# Altium schematic symbol library Atmel_By_element14_Batch_1-00.SCHLIB: 346 symbols (part 3 of 5)
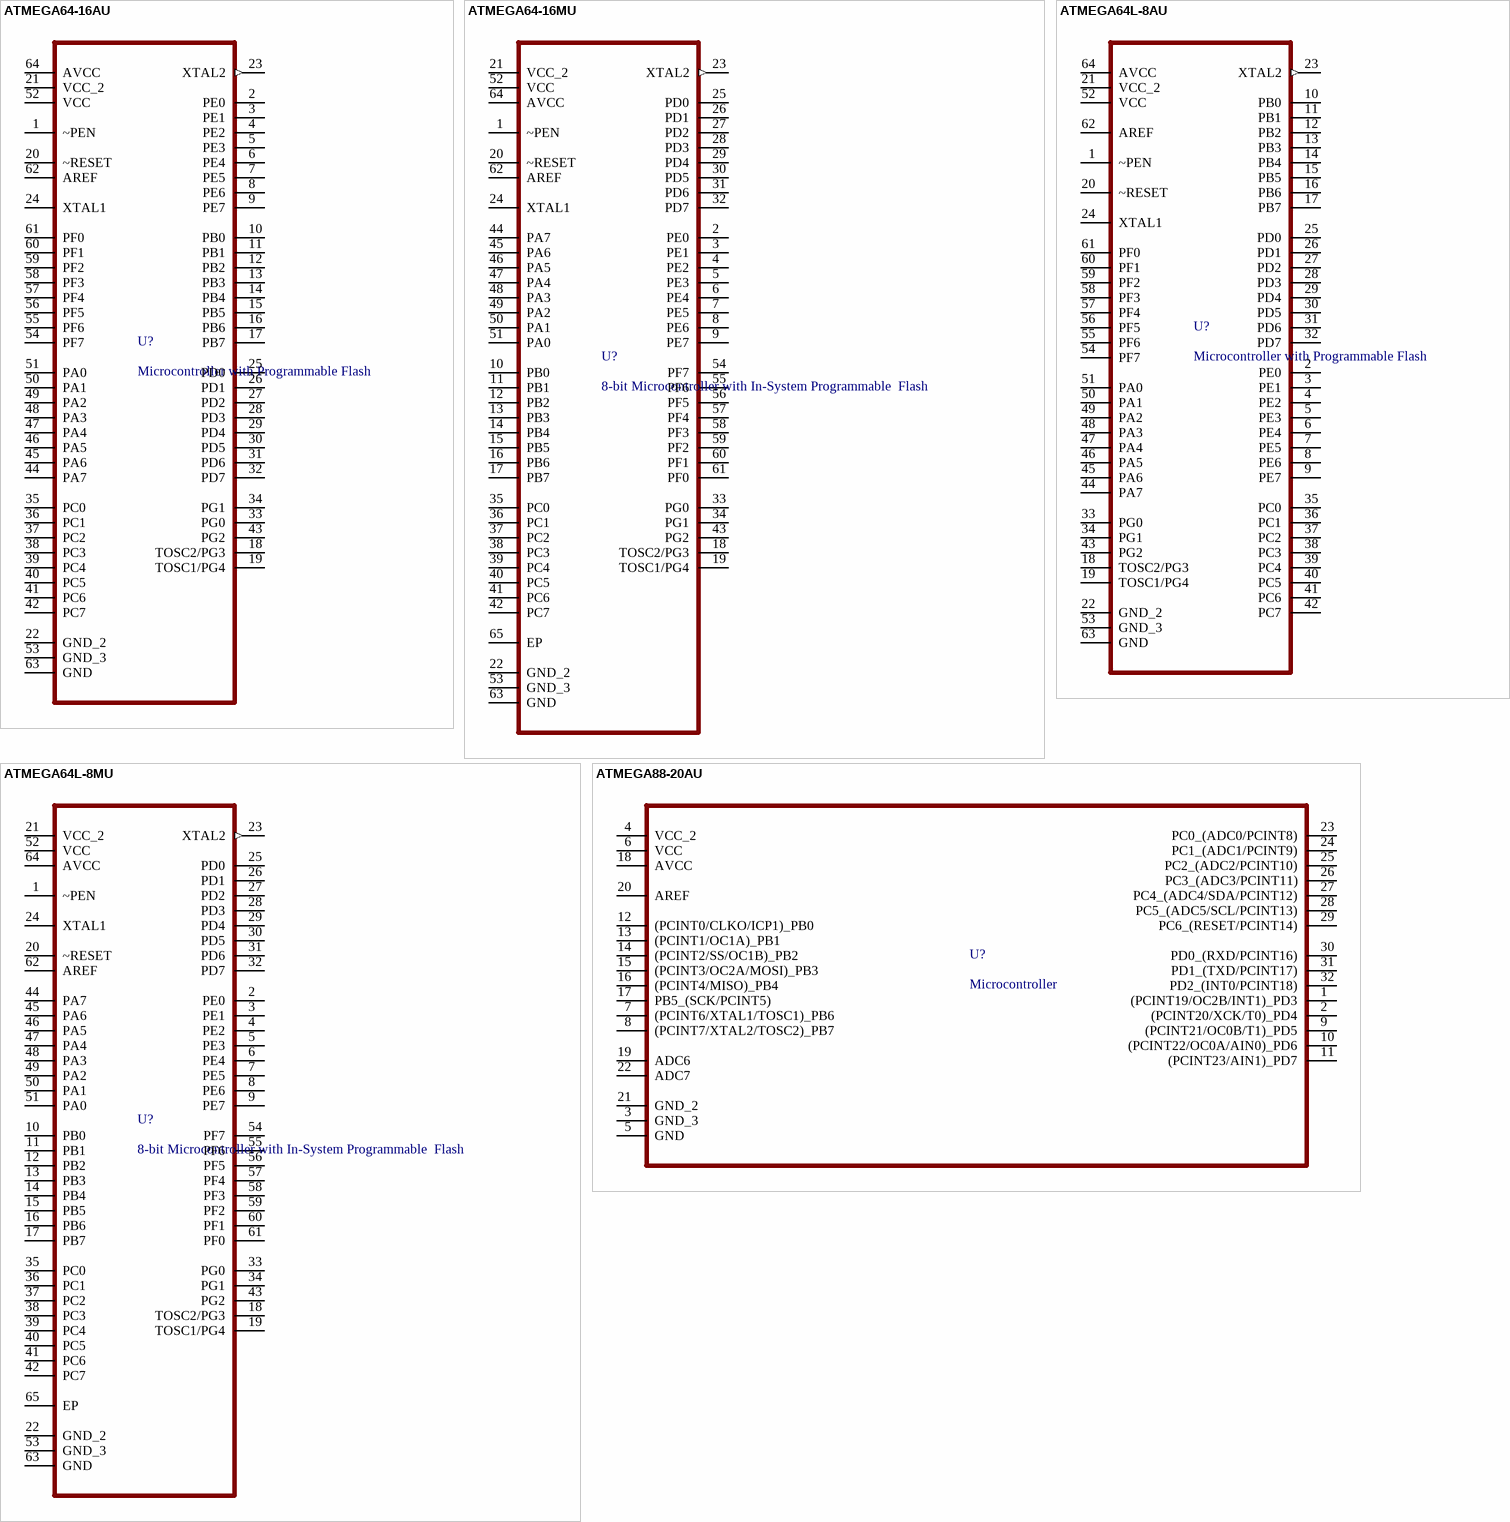
[diagram p48: symbols ATMEGA64-16AU to ATMEGA88-20AU]

## ATMEGA64-16MU
designator U?, comment 8-bit Microcontroller with In-System Programmable  Flash
MPN: ATMEGA64-16MU; OC_FARNELL: 1455120; OC_NEWARK: 58M3742; PACKAGE: QFN-64; SUPPLIER: Atmel
footprint QFN50P900X900X100-65N
pins: 1 ~PEN, 2 PE0, 3 PE1, 4 PE2, 5 PE3, 6 PE4, 7 PE5, 8 PE6, 9 PE7, 10 PB0, 11 PB1, 12 PB2, 13 PB3, 14 PB4, 15 PB5, 16 PB6, 17 PB7, 18 TOSC2/PG3, 19 TOSC1/PG4, 20 ~RESET, 21 VCC_2 (power), 22 GND_2, 23 XTAL2 (out), 24 XTAL1, 25 PD0, 26 PD1, 27 PD2, 28 PD3, 29 PD4, 30 PD5, 31 PD6, 32 PD7, 33 PG0, 34 PG1, 35 PC0, 36 PC1, 37 PC2, 38 PC3, 39 PC4, 40 PC5, 41 PC6, 42 PC7, 43 PG2, 44 PA7, 45 PA6, 46 PA5, 47 PA4, 48 PA3, 49 PA2, 50 PA1, 51 PA0, 52 VCC (power), 53 GND_3, 54 PF7, 55 PF6, 56 PF5, 57 PF4, 58 PF3, 59 PF2, 60 PF1, 61 PF0, 62 AREF, 63 GND, 64 AVCC (power), 65 EP

## ATMEGA64L-8AU
designator U?, comment Microcontroller with Programmable Flash
MPN: ATMEGA64L-8AU; OC_FARNELL: 9171363; OC_NEWARK: 93K6414; PACKAGE: TQFP-64; SUPPLIER: Atmel
footprint QFP80P1600X1600X120-64N
pins: 1 ~PEN, 2 PE0, 3 PE1, 4 PE2, 5 PE3, 6 PE4, 7 PE5, 8 PE6, 9 PE7, 10 PB0, 11 PB1, 12 PB2, 13 PB3, 14 PB4, 15 PB5, 16 PB6, 17 PB7, 18 TOSC2/PG3, 19 TOSC1/PG4, 20 ~RESET, 21 VCC_2 (power), 22 GND_2, 23 XTAL2 (out), 24 XTAL1, 25 PD0, 26 PD1, 27 PD2, 28 PD3, 29 PD4, 30 PD5, 31 PD6, 32 PD7, 33 PG0, 34 PG1, 35 PC0, 36 PC1, 37 PC2, 38 PC3, 39 PC4, 40 PC5, 41 PC6, 42 PC7, 43 PG2, 44 PA7, 45 PA6, 46 PA5, 47 PA4, 48 PA3, 49 PA2, 50 PA1, 51 PA0, 52 VCC (power), 53 GND_3, 54 PF7, 55 PF6, 56 PF5, 57 PF4, 58 PF3, 59 PF2, 60 PF1, 61 PF0, 62 AREF, 63 GND, 64 AVCC (power)

## ATMEGA64L-8MU
designator U?, comment 8-bit Microcontroller with In-System Programmable  Flash
MPN: ATMEGA64L-8MU; OC_FARNELL: 1455125; OC_NEWARK: 58M3743; PACKAGE: QFN-64; SUPPLIER: Atmel
footprint QFN50P900X900X100-65N
pins: 1 ~PEN, 2 PE0, 3 PE1, 4 PE2, 5 PE3, 6 PE4, 7 PE5, 8 PE6, 9 PE7, 10 PB0, 11 PB1, 12 PB2, 13 PB3, 14 PB4, 15 PB5, 16 PB6, 17 PB7, 18 TOSC2/PG3, 19 TOSC1/PG4, 20 ~RESET, 21 VCC_2 (power), 22 GND_2, 23 XTAL2 (out), 24 XTAL1, 25 PD0, 26 PD1, 27 PD2, 28 PD3, 29 PD4, 30 PD5, 31 PD6, 32 PD7, 33 PG0, 34 PG1, 35 PC0, 36 PC1, 37 PC2, 38 PC3, 39 PC4, 40 PC5, 41 PC6, 42 PC7, 43 PG2, 44 PA7, 45 PA6, 46 PA5, 47 PA4, 48 PA3, 49 PA2, 50 PA1, 51 PA0, 52 VCC (power), 53 GND_3, 54 PF7, 55 PF6, 56 PF5, 57 PF4, 58 PF3, 59 PF2, 60 PF1, 61 PF0, 62 AREF, 63 GND, 64 AVCC (power), 65 EP

## ATMEGA88-20AU
designator U?, comment Microcontroller
MPN: ATMEGA88-20AU; OC_FARNELL: 9171487; OC_NEWARK: 01M6912; PACKAGE: QFP-32; SUPPLIER: ATMEL
footprint QFP80P900X900X120-32N
pins: 1 (PCINT19/OC2B/INT1)_PD3, 2 (PCINT20/XCK/T0)_PD4, 3 GND_3, 4 VCC_2 (power), 5 GND, 6 VCC (power), 7 (PCINT6/XTAL1/TOSC1)_PB6, 8 (PCINT7/XTAL2/TOSC2)_PB7, 9 (PCINT21/OC0B/T1)_PD5, 10 (PCINT22/OC0A/AIN0)_PD6, 11 (PCINT23/AIN1)_PD7, 12 (PCINT0/CLKO/ICP1)_PB0, 13 (PCINT1/OC1A)_PB1, 14 (PCINT2/SS/OC1B)_PB2, 15 (PCINT3/OC2A/MOSI)_PB3, 16 (PCINT4/MISO)_PB4, 17 PB5_(SCK/PCINT5), 18 AVCC (power), 19 ADC6, 20 AREF, 21 GND_2, 22 ADC7, 23 PC0_(ADC0/PCINT8), 24 PC1_(ADC1/PCINT9), 25 PC2_(ADC2/PCINT10), 26 PC3_(ADC3/PCINT11), 27 PC4_(ADC4/SDA/PCINT12), 28 PC5_(ADC5/SCL/PCINT13), 29 PC6_(RESET/PCINT14), 30 PD0_(RXD/PCINT16), 31 PD1_(TXD/PCINT17), 32 PD2_(INT0/PCINT18)

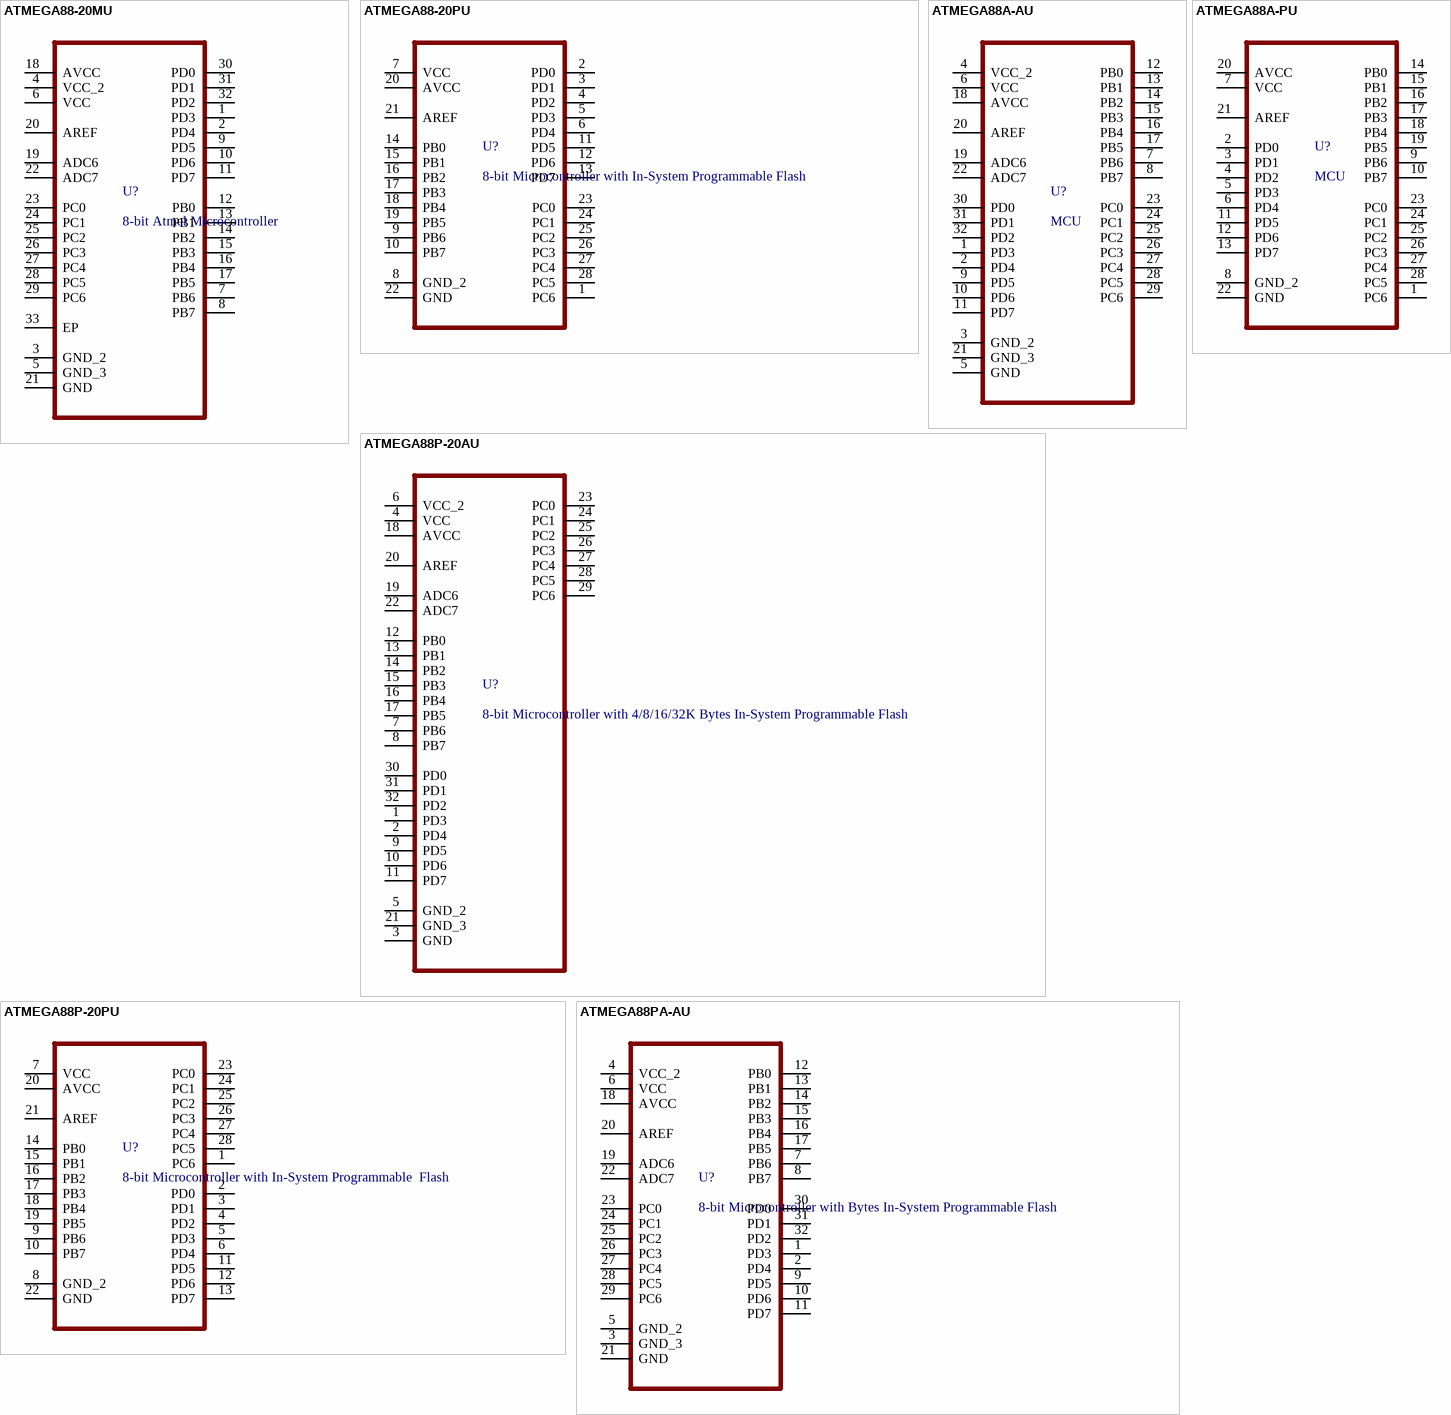
[diagram p21: symbols ATMEGA88-20MU to ATMEGA88PA-AU]

## ATMEGA88-20MU
designator U?, comment 8-bit Atmel Microcontroller
MPN: ATMEGA88-20MU; OC_FARNELL: 1455128; OC_NEWARK: 58M3752; PACKAGE: QFN-32; SUPPLIER: Atmel
footprint QFN50P500X500X100-33N
pins: 1 PD3, 2 PD4, 3 GND_2, 4 VCC_2 (power), 5 GND_3, 6 VCC (power), 7 PB6, 8 PB7, 9 PD5, 10 PD6, 11 PD7, 12 PB0, 13 PB1, 14 PB2, 15 PB3, 16 PB4, 17 PB5, 18 AVCC (power), 19 ADC6, 20 AREF, 21 GND, 22 ADC7, 23 PC0, 24 PC1, 25 PC2, 26 PC3, 27 PC4, 28 PC5, 29 PC6, 30 PD0, 31 PD1, 32 PD2, 33 EP

## ATMEGA88-20PU
designator U?, comment 8-bit Microcontroller with In-System Programmable Flash
MPN: ATMEGA88-20PU; OC_FARNELL: 9171495; OC_NEWARK: 01M6913; PACKAGE: DIP-28; SUPPLIER: Atmel
footprint DIP254P762X457-28
pins: 1 PC6, 2 PD0, 3 PD1, 4 PD2, 5 PD3, 6 PD4, 7 VCC, 8 GND_2, 9 PB6, 10 PB7, 11 PD5, 12 PD6, 13 PD7, 14 PB0, 15 PB1, 16 PB2, 17 PB3, 18 PB4, 19 PB5, 20 AVCC, 21 AREF, 22 GND, 23 PC0, 24 PC1, 25 PC2, 26 PC3, 27 PC4, 28 PC5

## ATMEGA88A-AU
designator U?, comment MCU
MPN: ATMEGA88A-AU; OC_FARNELL: 1841614; OC_NEWARK: 12T1303; PACKAGE: QFP-32; SUPPLIER: Atmel
footprint QFP80P900X900X120-32N
pins: 1 PD3, 2 PD4, 3 GND_2, 4 VCC_2 (power), 5 GND, 6 VCC (power), 7 PB6, 8 PB7, 9 PD5, 10 PD6, 11 PD7, 12 PB0, 13 PB1, 14 PB2, 15 PB3, 16 PB4, 17 PB5, 18 AVCC (power), 19 ADC6, 20 AREF, 21 GND_3, 22 ADC7, 23 PC0, 24 PC1, 25 PC2, 26 PC3, 27 PC4, 28 PC5, 29 PC6, 30 PD0, 31 PD1, 32 PD2

## ATMEGA88A-PU
designator U?, comment MCU
MPN: ATMEGA88A-PU; OC_FARNELL: 1841615; OC_NEWARK: 12T1304; PACKAGE: DIP-28; SUPPLIER: Atmel
footprint DIP254P762X457-28
pins: 1 PC6, 2 PD0, 3 PD1, 4 PD2, 5 PD3, 6 PD4, 7 VCC (power), 8 GND_2, 9 PB6, 10 PB7, 11 PD5, 12 PD6, 13 PD7, 14 PB0, 15 PB1, 16 PB2, 17 PB3, 18 PB4, 19 PB5, 20 AVCC (power), 21 AREF, 22 GND, 23 PC0, 24 PC1, 25 PC2, 26 PC3, 27 PC4, 28 PC5

## ATMEGA88P-20AU
designator U?, comment 8-bit Microcontroller with 4/8/16/32K Bytes In-System Programmable Flash
MPN: ATMEGA88P-20AU; OC_FARNELL: 1636946; OC_NEWARK: 03P2032; PACKAGE: TQFP-32; SUPPLIER: ATMEL
footprint QFP80P900X900X120-32N
pins: 1 PD3, 2 PD4, 3 GND, 4 VCC (power), 5 GND_2, 6 VCC_2 (power), 7 PB6, 8 PB7, 9 PD5, 10 PD6, 11 PD7, 12 PB0, 13 PB1, 14 PB2, 15 PB3, 16 PB4, 17 PB5, 18 AVCC (power), 19 ADC6, 20 AREF, 21 GND_3, 22 ADC7, 23 PC0, 24 PC1, 25 PC2, 26 PC3, 27 PC4, 28 PC5, 29 PC6, 30 PD0, 31 PD1, 32 PD2

## ATMEGA88P-20PU
designator U?, comment 8-bit Microcontroller with In-System Programmable  Flash
MPN: ATMEGA88P-20PU; OC_FARNELL: 1636948; OC_NEWARK: 03P2033; PACKAGE: PDIP-24; SUPPLIER: Atmel
footprint DIP254P762X457-28
pins: 1 PC6, 2 PD0, 3 PD1, 4 PD2, 5 PD3, 6 PD4, 7 VCC (power), 8 GND_2, 9 PB6, 10 PB7, 11 PD5, 12 PD6, 13 PD7, 14 PB0, 15 PB1, 16 PB2, 17 PB3, 18 PB4, 19 PB5, 20 AVCC (power), 21 AREF, 22 GND, 23 PC0, 24 PC1, 25 PC2, 26 PC3, 27 PC4, 28 PC5

## ATMEGA88PA-AU
designator U?, comment 8-bit Microcontroller with Bytes In-System Programmable Flash
MPN: ATMEGA88PA-AU; OC_FARNELL: 1715490; OC_NEWARK: 15R0271; PACKAGE: QFP-32; SUPPLIER: Atmel
footprint QFP80P900X900X120-32N
pins: 1 PD3, 2 PD4, 3 GND_3, 4 VCC_2 (power), 5 GND_2, 6 VCC (power), 7 PB6, 8 PB7, 9 PD5, 10 PD6, 11 PD7, 12 PB0, 13 PB1, 14 PB2, 15 PB3, 16 PB4, 17 PB5, 18 AVCC (power), 19 ADC6, 20 AREF, 21 GND, 22 ADC7, 23 PC0, 24 PC1, 25 PC2, 26 PC3, 27 PC4, 28 PC5, 29 PC6, 30 PD0, 31 PD1, 32 PD2

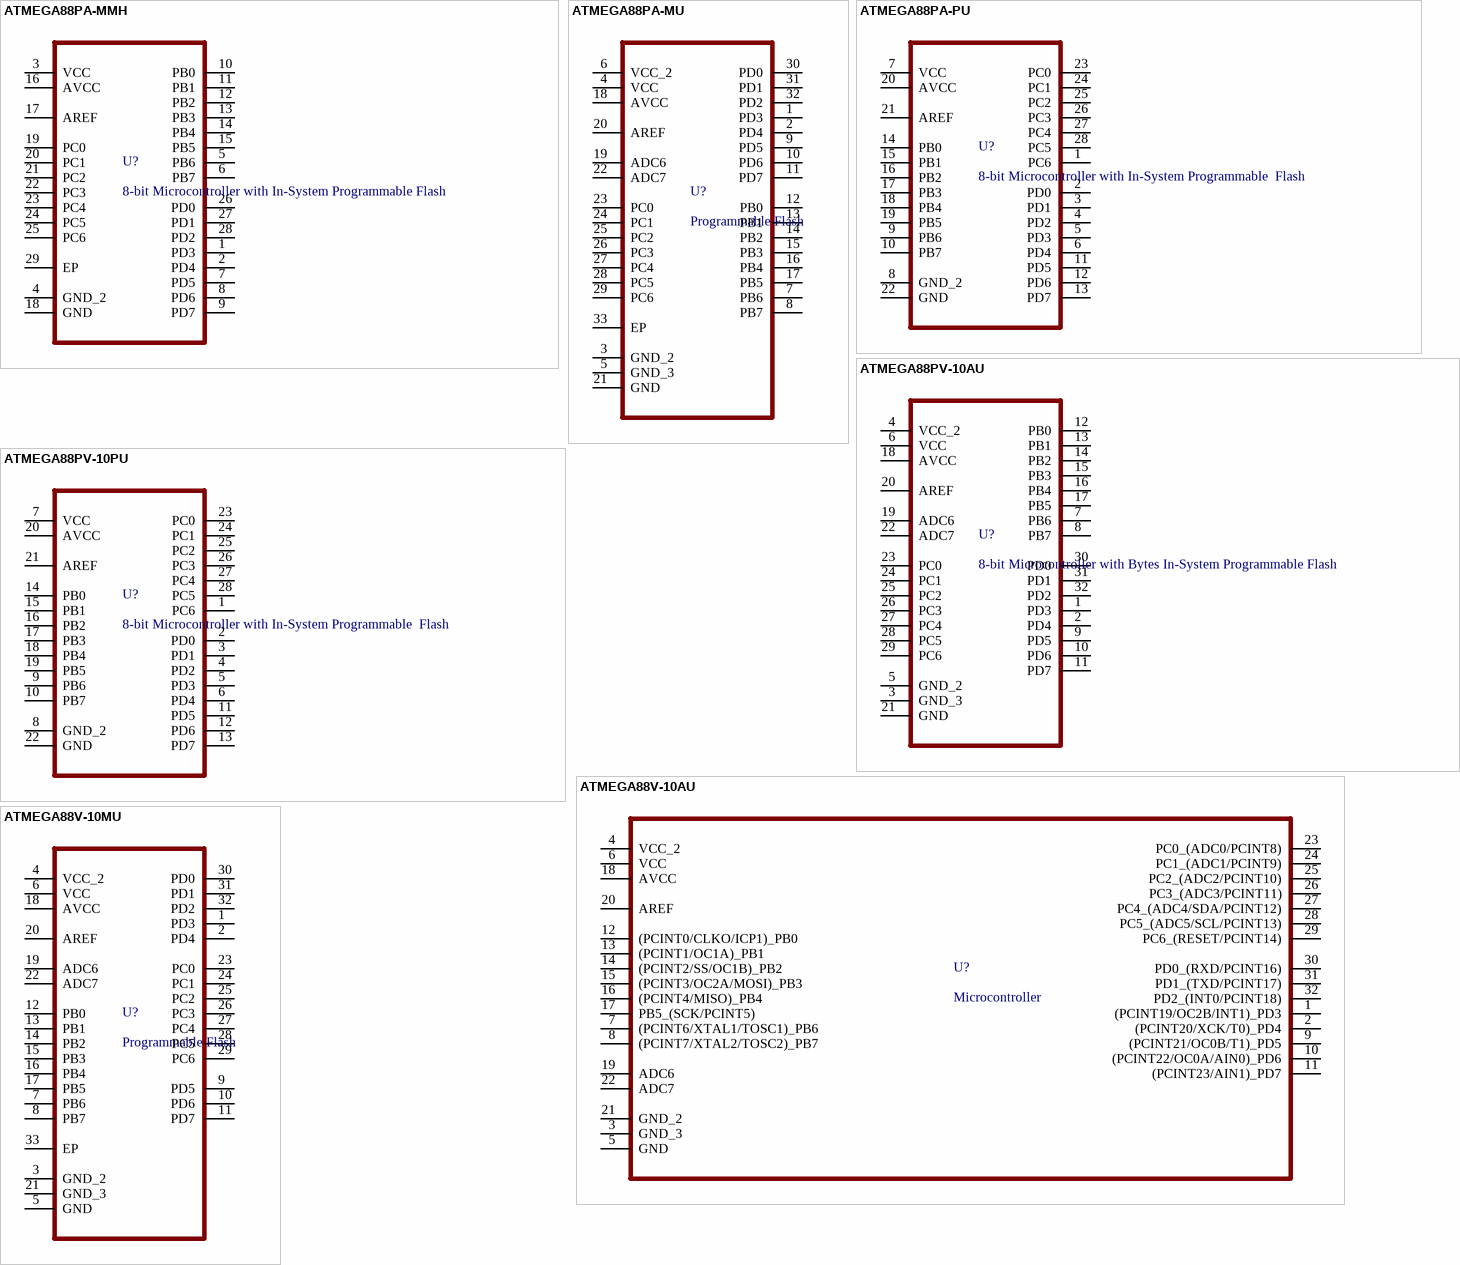
[diagram p22: symbols ATMEGA88PA-MMH to ATMEGA88V-10MU]

## ATMEGA88PA-MMH
designator U?, comment 8-bit Microcontroller with In-System Programmable Flash
MPN: ATMEGA88PA-MMH; OC_FARNELL: 1748530; OC_NEWARK: 26R5643; PACKAGE: QFN-28; SUPPLIER: Atmel
footprint QFN45P400X400X100-29N
pins: 1 PD3, 2 PD4, 3 VCC (power), 4 GND_2, 5 PB6, 6 PB7, 7 PD5, 8 PD6, 9 PD7, 10 PB0, 11 PB1, 12 PB2, 13 PB3, 14 PB4, 15 PB5, 16 AVCC (power), 17 AREF, 18 GND, 19 PC0, 20 PC1, 21 PC2, 22 PC3, 23 PC4, 24 PC5, 25 PC6, 26 PD0, 27 PD1, 28 PD2, 29 EP

## ATMEGA88PA-MU
designator U?, comment Programmable Flash
MPN: ATMEGA88PA-MU; OC_FARNELL: 1715491; OC_NEWARK: 15R0272; PACKAGE: QFN-32; SUPPLIER: Atmel
footprint QFN50P500X500X100-33N
pins: 1 PD3, 2 PD4, 3 GND_2, 4 VCC (power), 5 GND_3, 6 VCC_2 (power), 7 PB6, 8 PB7, 9 PD5, 10 PD6, 11 PD7, 12 PB0, 13 PB1, 14 PB2, 15 PB3, 16 PB4, 17 PB5, 18 AVCC (power), 19 ADC6, 20 AREF, 21 GND, 22 ADC7, 23 PC0, 24 PC1, 25 PC2, 26 PC3, 27 PC4, 28 PC5, 29 PC6, 30 PD0, 31 PD1, 32 PD2, 33 EP

## ATMEGA88PA-PU
designator U?, comment 8-bit Microcontroller with In-System Programmable  Flash
MPN: ATMEGA88PA-PU; OC_FARNELL: 1715492; OC_NEWARK: 15R0273; PACKAGE: PDIP-28; SUPPLIER: Atmel
footprint DIP254P762X457-28
pins: 1 PC6, 2 PD0, 3 PD1, 4 PD2, 5 PD3, 6 PD4, 7 VCC (power), 8 GND_2, 9 PB6, 10 PB7, 11 PD5, 12 PD6, 13 PD7, 14 PB0, 15 PB1, 16 PB2, 17 PB3, 18 PB4, 19 PB5, 20 AVCC (power), 21 AREF, 22 GND, 23 PC0, 24 PC1, 25 PC2, 26 PC3, 27 PC4, 28 PC5

## ATMEGA88PV-10AU
designator U?, comment 8-bit Microcontroller with Bytes In-System Programmable Flash
MPN: ATMEGA88PV-10AU; OC_FARNELL: 1636949; OC_NEWARK: 03P2034; PACKAGE: QFP-32; SUPPLIER: Atmel
footprint QFP80P900X900X120-32N
pins: 1 PD3, 2 PD4, 3 GND_3, 4 VCC_2 (power), 5 GND_2, 6 VCC (power), 7 PB6, 8 PB7, 9 PD5, 10 PD6, 11 PD7, 12 PB0, 13 PB1, 14 PB2, 15 PB3, 16 PB4, 17 PB5, 18 AVCC (power), 19 ADC6, 20 AREF, 21 GND, 22 ADC7, 23 PC0, 24 PC1, 25 PC2, 26 PC3, 27 PC4, 28 PC5, 29 PC6, 30 PD0, 31 PD1, 32 PD2

## ATMEGA88PV-10PU
designator U?, comment 8-bit Microcontroller with In-System Programmable  Flash
MPN: ATMEGA88PV-10PU; OC_FARNELL: 1636950; OC_NEWARK: 03P2035; PACKAGE: PDIP-24; SUPPLIER: Atmel
footprint DIP254P762X457-28
pins: 1 PC6, 2 PD0, 3 PD1, 4 PD2, 5 PD3, 6 PD4, 7 VCC (power), 8 GND_2, 9 PB6, 10 PB7, 11 PD5, 12 PD6, 13 PD7, 14 PB0, 15 PB1, 16 PB2, 17 PB3, 18 PB4, 19 PB5, 20 AVCC (power), 21 AREF, 22 GND, 23 PC0, 24 PC1, 25 PC2, 26 PC3, 27 PC4, 28 PC5

## ATMEGA88V-10AU
designator U?, comment Microcontroller
MPN: ATMEGA88V-10AU; OC_FARNELL: 9171509; OC_NEWARK: 01M6914; PACKAGE: QFP-32; SUPPLIER: ATMEL
footprint QFP80P900X900X120-32N
pins: 1 (PCINT19/OC2B/INT1)_PD3, 2 (PCINT20/XCK/T0)_PD4, 3 GND_3, 4 VCC_2 (power), 5 GND, 6 VCC (power), 7 (PCINT6/XTAL1/TOSC1)_PB6, 8 (PCINT7/XTAL2/TOSC2)_PB7, 9 (PCINT21/OC0B/T1)_PD5, 10 (PCINT22/OC0A/AIN0)_PD6, 11 (PCINT23/AIN1)_PD7, 12 (PCINT0/CLKO/ICP1)_PB0, 13 (PCINT1/OC1A)_PB1, 14 (PCINT2/SS/OC1B)_PB2, 15 (PCINT3/OC2A/MOSI)_PB3, 16 (PCINT4/MISO)_PB4, 17 PB5_(SCK/PCINT5), 18 AVCC (power), 19 ADC6, 20 AREF, 21 GND_2, 22 ADC7, 23 PC0_(ADC0/PCINT8), 24 PC1_(ADC1/PCINT9), 25 PC2_(ADC2/PCINT10), 26 PC3_(ADC3/PCINT11), 27 PC4_(ADC4/SDA/PCINT12), 28 PC5_(ADC5/SCL/PCINT13), 29 PC6_(RESET/PCINT14), 30 PD0_(RXD/PCINT16), 31 PD1_(TXD/PCINT17), 32 PD2_(INT0/PCINT18)

## ATMEGA88V-10MU
designator U?, comment Programmable Flash
MPN: ATMEGA88V-10MU; OC_FARNELL: 1455129; OC_NEWARK: 58M3753; PACKAGE: QFN-32; SUPPLIER: Atmel
footprint QFN50P500X500X100-33N
pins: 1 PD3, 2 PD4, 3 GND_2, 4 VCC_2 (power), 5 GND, 6 VCC (power), 7 PB6, 8 PB7, 9 PD5, 10 PD6, 11 PD7, 12 PB0, 13 PB1, 14 PB2, 15 PB3, 16 PB4, 17 PB5, 18 AVCC (power), 19 ADC6, 20 AREF, 21 GND_3, 22 ADC7, 23 PC0, 24 PC1, 25 PC2, 26 PC3, 27 PC4, 28 PC5, 29 PC6, 30 PD0, 31 PD1, 32 PD2, 33 EP

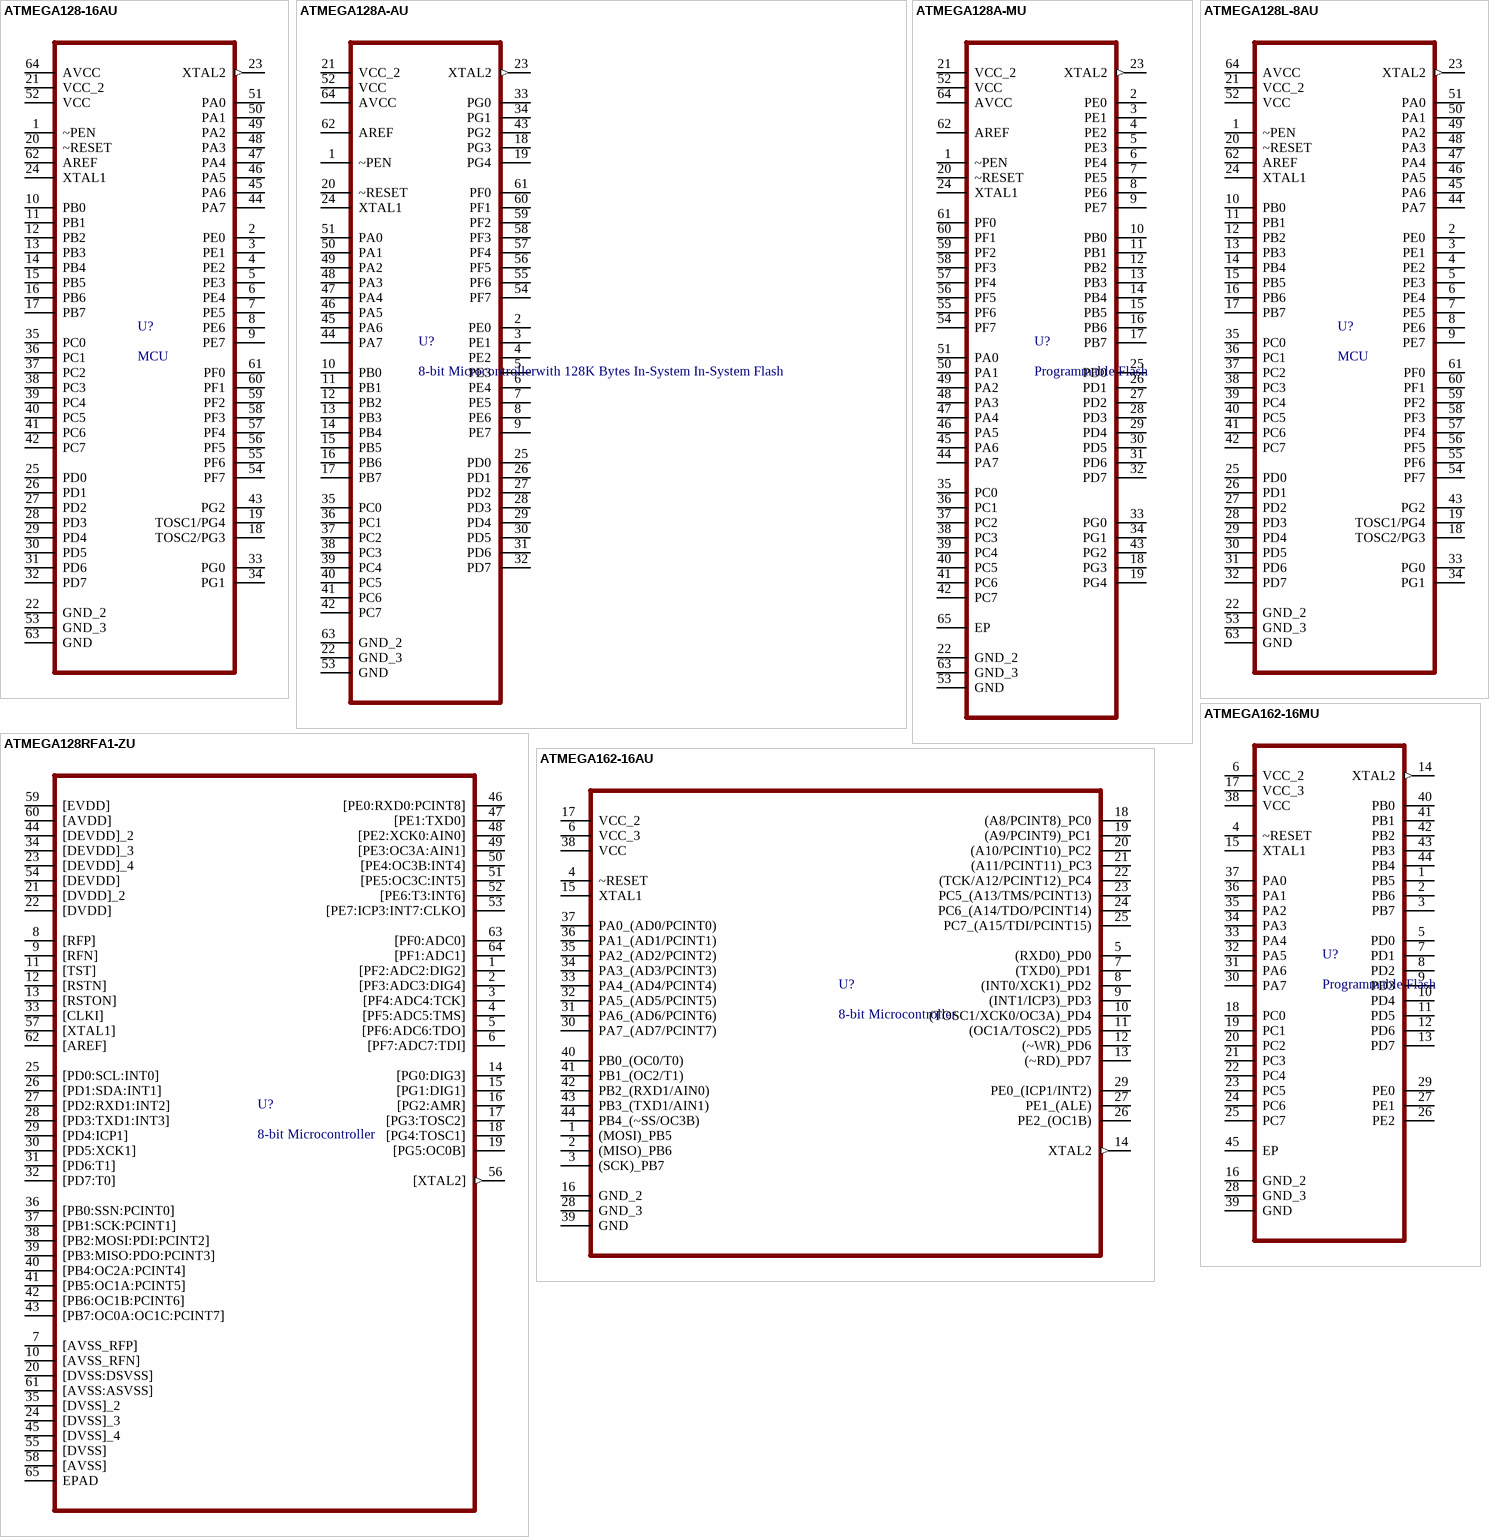
[diagram p23: symbols ATMEGA128-16AU to ATMEGA162-16MU]

## ATMEGA128-16AU
designator U?, comment MCU
MPN: ATMEGA128-16AU; OC_FARNELL: 9171118; OC_NEWARK: 95K7364; PACKAGE: QFP-64; SUPPLIER: Atmel
footprint QFP80P1600X1600X120-64N
pins: 1 ~PEN, 2 PE0, 3 PE1, 4 PE2, 5 PE3, 6 PE4, 7 PE5, 8 PE6, 9 PE7, 10 PB0, 11 PB1, 12 PB2, 13 PB3, 14 PB4, 15 PB5, 16 PB6, 17 PB7, 18 TOSC2/PG3, 19 TOSC1/PG4, 20 ~RESET, 21 VCC_2 (power), 22 GND_2, 23 XTAL2 (out), 24 XTAL1, 25 PD0, 26 PD1, 27 PD2, 28 PD3, 29 PD4, 30 PD5, 31 PD6, 32 PD7, 33 PG0, 34 PG1, 35 PC0, 36 PC1, 37 PC2, 38 PC3, 39 PC4, 40 PC5, 41 PC6, 42 PC7, 43 PG2, 44 PA7, 45 PA6, 46 PA5, 47 PA4, 48 PA3, 49 PA2, 50 PA1, 51 PA0, 52 VCC (power), 53 GND_3, 54 PF7, 55 PF6, 56 PF5, 57 PF4, 58 PF3, 59 PF2, 60 PF1, 61 PF0, 62 AREF, 63 GND, 64 AVCC (power)

## ATMEGA128A-AU
designator U?, comment 8-bit Microcontrollerwith 128K Bytes In-System In-System Flash
MPN: ATMEGA128A-AU; OC_FARNELL: 1773397; OC_NEWARK: 51R8675; PACKAGE: TQFP-64; SUPPLIER: Atmel
footprint QFP80P1600X1600X120-64N
pins: 1 ~PEN, 2 PE0, 3 PE1, 4 PE2, 5 PE3, 6 PE4, 7 PE5, 8 PE6, 9 PE7, 10 PB0, 11 PB1, 12 PB2, 13 PB3, 14 PB4, 15 PB5, 16 PB6, 17 PB7, 18 PG3, 19 PG4, 20 ~RESET, 21 VCC_2 (power), 22 GND_3, 23 XTAL2 (out), 24 XTAL1, 25 PD0, 26 PD1, 27 PD2, 28 PD3, 29 PD4, 30 PD5, 31 PD6, 32 PD7, 33 PG0, 34 PG1, 35 PC0, 36 PC1, 37 PC2, 38 PC3, 39 PC4, 40 PC5, 41 PC6, 42 PC7, 43 PG2, 44 PA7, 45 PA6, 46 PA5, 47 PA4, 48 PA3, 49 PA2, 50 PA1, 51 PA0, 52 VCC (power), 53 GND, 54 PF7, 55 PF6, 56 PF5, 57 PF4, 58 PF3, 59 PF2, 60 PF1, 61 PF0, 62 AREF, 63 GND_2, 64 AVCC (power)

## ATMEGA128A-MU
designator U?, comment Programmable Flash
MPN: ATMEGA128A-MU; OC_FARNELL: 1773398; OC_NEWARK: 51R8676; PACKAGE: QFN-64; SUPPLIER: Atmel
footprint QFN50P900X900X100-65N
pins: 1 ~PEN, 2 PE0, 3 PE1, 4 PE2, 5 PE3, 6 PE4, 7 PE5, 8 PE6, 9 PE7, 10 PB0, 11 PB1, 12 PB2, 13 PB3, 14 PB4, 15 PB5, 16 PB6, 17 PB7, 18 PG3, 19 PG4, 20 ~RESET, 21 VCC_2 (power), 22 GND_2, 23 XTAL2 (out), 24 XTAL1, 25 PD0, 26 PD1, 27 PD2, 28 PD3, 29 PD4, 30 PD5, 31 PD6, 32 PD7, 33 PG0, 34 PG1, 35 PC0, 36 PC1, 37 PC2, 38 PC3, 39 PC4, 40 PC5, 41 PC6, 42 PC7, 43 PG2, 44 PA7, 45 PA6, 46 PA5, 47 PA4, 48 PA3, 49 PA2, 50 PA1, 51 PA0, 52 VCC (power), 53 GND, 54 PF7, 55 PF6, 56 PF5, 57 PF4, 58 PF3, 59 PF2, 60 PF1, 61 PF0, 62 AREF, 63 GND_3, 64 AVCC (power), 65 EP

## ATMEGA128L-8AU
designator U?, comment MCU
MPN: ATMEGA128L-8AU; OC_FARNELL: 9171126; OC_NEWARK: 96K6514; PACKAGE: QFP-64; SUPPLIER: Atmel
footprint QFP80P1600X1600X120-64N
pins: 1 ~PEN, 2 PE0, 3 PE1, 4 PE2, 5 PE3, 6 PE4, 7 PE5, 8 PE6, 9 PE7, 10 PB0, 11 PB1, 12 PB2, 13 PB3, 14 PB4, 15 PB5, 16 PB6, 17 PB7, 18 TOSC2/PG3, 19 TOSC1/PG4, 20 ~RESET, 21 VCC_2 (power), 22 GND_2, 23 XTAL2 (out), 24 XTAL1, 25 PD0, 26 PD1, 27 PD2, 28 PD3, 29 PD4, 30 PD5, 31 PD6, 32 PD7, 33 PG0, 34 PG1, 35 PC0, 36 PC1, 37 PC2, 38 PC3, 39 PC4, 40 PC5, 41 PC6, 42 PC7, 43 PG2, 44 PA7, 45 PA6, 46 PA5, 47 PA4, 48 PA3, 49 PA2, 50 PA1, 51 PA0, 52 VCC (power), 53 GND_3, 54 PF7, 55 PF6, 56 PF5, 57 PF4, 58 PF3, 59 PF2, 60 PF1, 61 PF0, 62 AREF, 63 GND, 64 AVCC (power)

## ATMEGA128RFA1-ZU
designator U?, comment 8-bit Microcontroller
MPN: ATMEGA128RFA1-ZU; OC_FARNELL: 1841596; OC_NEWARK: -; PACKAGE: QFN-64; SUPPLIER: Atmel
footprint QFN50P900X900X90-64N
pins: 1 [PF2:ADC2:DIG2], 2 [PF3:ADC3:DIG4], 3 [PF4:ADC4:TCK], 4 [PF5:ADC5:TMS], 5 [PF6:ADC6:TDO], 6 [PF7:ADC7:TDI], 7 [AVSS_RFP] (power), 8 [RFP], 9 [RFN], 10 [AVSS_RFN] (power), 11 [TST], 12 [RSTN], 13 [RSTON], 14 [PG0:DIG3], 15 [PG1:DIG1], 16 [PG2:AMR], 17 [PG3:TOSC2], 18 [PG4:TOSC1], 19 [PG5:OC0B], 20 [DVSS:DSVSS] (power), 21 [DVDD]_2 (power), 22 [DVDD] (power), 23 [DEVDD]_4 (power), 24 [DVSS]_3 (power), 25 [PD0:SCL:INT0], 26 [PD1:SDA:INT1], 27 [PD2:RXD1:INT2], 28 [PD3:TXD1:INT3], 29 [PD4:ICP1], 30 [PD5:XCK1], 31 [PD6:T1], 32 [PD7:T0], 33 [CLKI], 34 [DEVDD]_3 (power), 35 [DVSS]_2 (power), 36 [PB0:SSN:PCINT0], 37 [PB1:SCK:PCINT1], 38 [PB2:MOSI:PDI:PCINT2], 39 [PB3:MISO:PDO:PCINT3], 40 [PB4:OC2A:PCINT4], 41 [PB5:OC1A:PCINT5], 42 [PB6:OC1B:PCINT6], 43 [PB7:OC0A:OC1C:PCINT7], 44 [DEVDD]_2 (power), 45 [DVSS]_4 (power), 46 [PE0:RXD0:PCINT8], 47 [PE1:TXD0], 48 [PE2:XCK0:AIN0], 49 [PE3:OC3A:AIN1], 50 [PE4:OC3B:INT4], 51 [PE5:OC3C:INT5], 52 [PE6:T3:INT6], 53 [PE7:ICP3:INT7:CLKO], 54 [DEVDD] (power), 55 [DVSS] (power), 56 [XTAL2] (out), 57 [XTAL1], 58 [AVSS] (power), 59 [EVDD] (power), 60 [AVDD] (power), 61 [AVSS:ASVSS] (power), 62 [AREF], 63 [PF0:ADC0], 64 [PF1:ADC1], 65 EPAD

## ATMEGA162-16AU
designator U?, comment 8-bit Microcontroller
MPN: ATMEGA162-16AU; OC_FARNELL: 9171150; OC_NEWARK: 96K6516; PACKAGE: QFP-44; SUPPLIER: Atmel
footprint QFP80P1200X1200X120-44N
pins: 1 (MOSI)_PB5, 2 (MISO)_PB6, 3 (SCK)_PB7, 4 ~RESET, 5 (RXD0)_PD0, 6 VCC_3 (power), 7 (TXD0)_PD1, 8 (INT0/XCK1)_PD2, 9 (INT1/ICP3)_PD3, 10 (TOSC1/XCK0/OC3A)_PD4, 11 (OC1A/TOSC2)_PD5, 12 (~WR)_PD6, 13 (~RD)_PD7, 14 XTAL2 (out), 15 XTAL1, 16 GND_2, 17 VCC_2 (power), 18 (A8/PCINT8)_PC0, 19 (A9/PCINT9)_PC1, 20 (A10/PCINT10)_PC2, 21 (A11/PCINT11)_PC3, 22 (TCK/A12/PCINT12)_PC4, 23 PC5_(A13/TMS/PCINT13), 24 PC6_(A14/TDO/PCINT14), 25 PC7_(A15/TDI/PCINT15), 26 PE2_(OC1B), 27 PE1_(ALE), 28 GND_3, 29 PE0_(ICP1/INT2), 30 PA7_(AD7/PCINT7), 31 PA6_(AD6/PCINT6), 32 PA5_(AD5/PCINT5), 33 PA4_(AD4/PCINT4), 34 PA3_(AD3/PCINT3), 35 PA2_(AD2/PCINT2), 36 PA1_(AD1/PCINT1), 37 PA0_(AD0/PCINT0), 38 VCC (power), 39 GND, 40 PB0_(OC0/T0), 41 PB1_(OC2/T1), 42 PB2_(RXD1/AIN0), 43 PB3_(TXD1/AIN1), 44 PB4_(~SS/OC3B)

## ATMEGA162-16MU
designator U?, comment Programmable Flash
MPN: ATMEGA162-16MU; OC_FARNELL: 1748511; OC_NEWARK: 26R5624; PACKAGE: QFN-44; SUPPLIER: Atmel
footprint QFN50P700X700X100-45N
pins: 1 PB5, 2 PB6, 3 PB7, 4 ~RESET, 5 PD0, 6 VCC_2 (power), 7 PD1, 8 PD2, 9 PD3, 10 PD4, 11 PD5, 12 PD6, 13 PD7, 14 XTAL2 (out), 15 XTAL1, 16 GND_2, 17 VCC_3 (power), 18 PC0, 19 PC1, 20 PC2, 21 PC3, 22 PC4, 23 PC5, 24 PC6, 25 PC7, 26 PE2, 27 PE1, 28 GND_3, 29 PE0, 30 PA7, 31 PA6, 32 PA5, 33 PA4, 34 PA3, 35 PA2, 36 PA1, 37 PA0, 38 VCC (power), 39 GND, 40 PB0, 41 PB1, 42 PB2, 43 PB3, 44 PB4, 45 EP

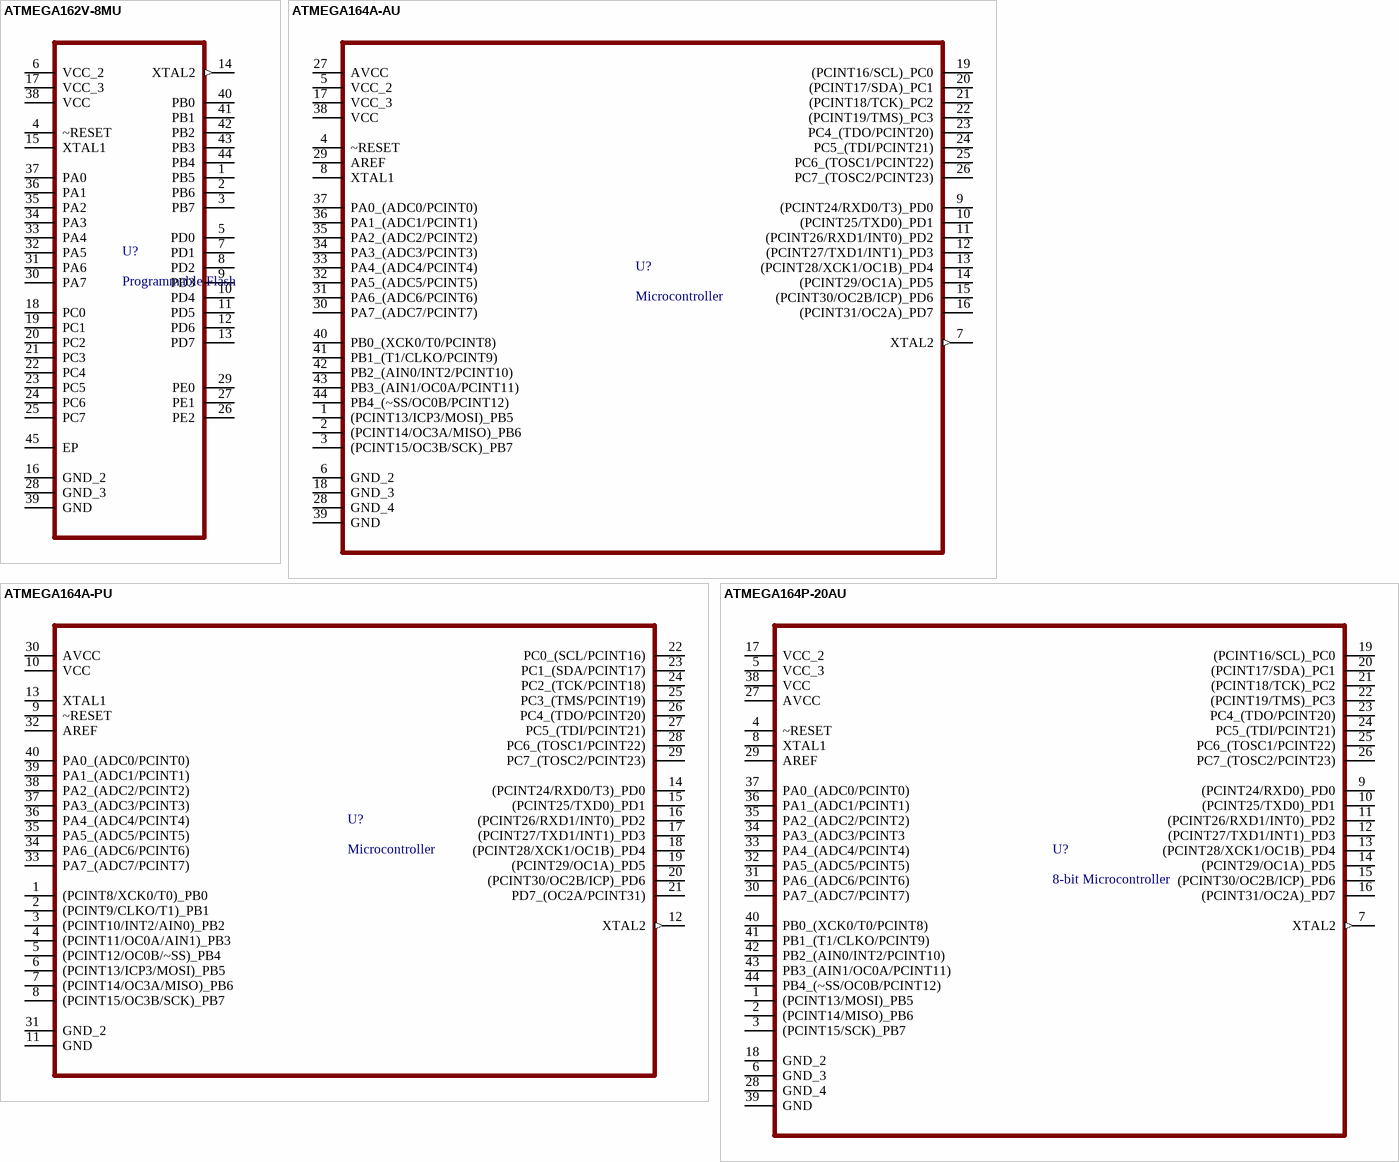
[diagram p24: symbols ATMEGA162V-8MU to ATMEGA164P-20AU]

## ATMEGA162V-8MU
designator U?, comment Programmable Flash
MPN: ATMEGA162V-8MU; OC_FARNELL: 1748512; OC_NEWARK: 26R5625; PACKAGE: QFN-44; SUPPLIER: Atmel
footprint QFN50P700X700X100-45N
pins: 1 PB5, 2 PB6, 3 PB7, 4 ~RESET, 5 PD0, 6 VCC_2 (power), 7 PD1, 8 PD2, 9 PD3, 10 PD4, 11 PD5, 12 PD6, 13 PD7, 14 XTAL2 (out), 15 XTAL1, 16 GND_2, 17 VCC_3 (power), 18 PC0, 19 PC1, 20 PC2, 21 PC3, 22 PC4, 23 PC5, 24 PC6, 25 PC7, 26 PE2, 27 PE1, 28 GND_3, 29 PE0, 30 PA7, 31 PA6, 32 PA5, 33 PA4, 34 PA3, 35 PA2, 36 PA1, 37 PA0, 38 VCC (power), 39 GND, 40 PB0, 41 PB1, 42 PB2, 43 PB3, 44 PB4, 45 EP

## ATMEGA164A-AU
designator U?, comment Microcontroller
MPN: ATMEGA164A-AU; OC_FARNELL: 1841601; OC_NEWARK: 12T1293; PACKAGE: QFP-44; SUPPLIER: ATMEL
footprint QFP80P1200X1200X120-44N
pins: 1 (PCINT13/ICP3/MOSI)_PB5, 2 (PCINT14/OC3A/MISO)_PB6, 3 (PCINT15/OC3B/SCK)_PB7, 4 ~RESET, 5 VCC_2 (power), 6 GND_2, 7 XTAL2 (out), 8 XTAL1, 9 (PCINT24/RXD0/T3)_PD0, 10 (PCINT25/TXD0)_PD1, 11 (PCINT26/RXD1/INT0)_PD2, 12 (PCINT27/TXD1/INT1)_PD3, 13 (PCINT28/XCK1/OC1B)_PD4, 14 (PCINT29/OC1A)_PD5, 15 (PCINT30/OC2B/ICP)_PD6, 16 (PCINT31/OC2A)_PD7, 17 VCC_3 (power), 18 GND_3, 19 (PCINT16/SCL)_PC0, 20 (PCINT17/SDA)_PC1, 21 (PCINT18/TCK)_PC2, 22 (PCINT19/TMS)_PC3, 23 PC4_(TDO/PCINT20), 24 PC5_(TDI/PCINT21), 25 PC6_(TOSC1/PCINT22), 26 PC7_(TOSC2/PCINT23), 27 AVCC (power), 28 GND_4, 29 AREF, 30 PA7_(ADC7/PCINT7), 31 PA6_(ADC6/PCINT6), 32 PA5_(ADC5/PCINT5), 33 PA4_(ADC4/PCINT4), 34 PA3_(ADC3/PCINT3), 35 PA2_(ADC2/PCINT2), 36 PA1_(ADC1/PCINT1), 37 PA0_(ADC0/PCINT0), 38 VCC (power), 39 GND, 40 PB0_(XCK0/T0/PCINT8), 41 PB1_(T1/CLKO/PCINT9), 42 PB2_(AIN0/INT2/PCINT10), 43 PB3_(AIN1/OC0A/PCINT11), 44 PB4_(~SS/OC0B/PCINT12)

## ATMEGA164A-PU
designator U?, comment Microcontroller
MPN: ATMEGA164A-PU; OC_FARNELL: 1841602; OC_NEWARK: 12T1294; PACKAGE: DIP-40; SUPPLIER: Atmel
footprint DIP254P1524X482-40
pins: 1 (PCINT8/XCK0/T0)_PB0, 2 (PCINT9/CLKO/T1)_PB1, 3 (PCINT10/INT2/AIN0)_PB2, 4 (PCINT11/OC0A/AIN1)_PB3, 5 (PCINT12/OC0B/~SS)_PB4, 6 (PCINT13/ICP3/MOSI)_PB5, 7 (PCINT14/OC3A/MISO)_PB6, 8 (PCINT15/OC3B/SCK)_PB7, 9 ~RESET, 10 VCC (power), 11 GND, 12 XTAL2 (out), 13 XTAL1, 14 (PCINT24/RXD0/T3)_PD0, 15 (PCINT25/TXD0)_PD1, 16 (PCINT26/RXD1/INT0)_PD2, 17 (PCINT27/TXD1/INT1)_PD3, 18 (PCINT28/XCK1/OC1B)_PD4, 19 (PCINT29/OC1A)_PD5, 20 (PCINT30/OC2B/ICP)_PD6, 21 PD7_(OC2A/PCINT31), 22 PC0_(SCL/PCINT16), 23 PC1_(SDA/PCINT17), 24 PC2_(TCK/PCINT18), 25 PC3_(TMS/PCINT19), 26 PC4_(TDO/PCINT20), 27 PC5_(TDI/PCINT21), 28 PC6_(TOSC1/PCINT22), 29 PC7_(TOSC2/PCINT23), 30 AVCC (power), 31 GND_2, 32 AREF, 33 PA7_(ADC7/PCINT7), 34 PA6_(ADC6/PCINT6), 35 PA5_(ADC5/PCINT5), 36 PA4_(ADC4/PCINT4), 37 PA3_(ADC3/PCINT3), 38 PA2_(ADC2/PCINT2), 39 PA1_(ADC1/PCINT1), 40 PA0_(ADC0/PCINT0)

## ATMEGA164P-20AU
designator U?, comment 8-bit Microcontroller
MPN: ATMEGA164P-20AU; OC_FARNELL: 1455098; OC_NEWARK: 58M3725; PACKAGE: QFP-44; SUPPLIER: Atmel
footprint QFP80P1200X1200X120-44N
pins: 1 (PCINT13/MOSI)_PB5, 2 (PCINT14/MISO)_PB6, 3 (PCINT15/SCK)_PB7, 4 ~RESET, 5 VCC_3 (power), 6 GND_3, 7 XTAL2 (out), 8 XTAL1, 9 (PCINT24/RXD0)_PD0, 10 (PCINT25/TXD0)_PD1, 11 (PCINT26/RXD1/INT0)_PD2, 12 (PCINT27/TXD1/INT1)_PD3, 13 (PCINT28/XCK1/OC1B)_PD4, 14 (PCINT29/OC1A)_PD5, 15 (PCINT30/OC2B/ICP)_PD6, 16 (PCINT31/OC2A)_PD7, 17 VCC_2 (power), 18 GND_2, 19 (PCINT16/SCL)_PC0, 20 (PCINT17/SDA)_PC1, 21 (PCINT18/TCK)_PC2, 22 (PCINT19/TMS)_PC3, 23 PC4_(TDO/PCINT20), 24 PC5_(TDI/PCINT21), 25 PC6_(TOSC1/PCINT22), 26 PC7_(TOSC2/PCINT23), 27 AVCC (power), 28 GND_4, 29 AREF, 30 PA7_(ADC7/PCINT7), 31 PA6_(ADC6/PCINT6), 32 PA5_(ADC5/PCINT5), 33 PA4_(ADC4/PCINT4), 34 PA3_(ADC3/PCINT3, 35 PA2_(ADC2/PCINT2), 36 PA1_(ADC1/PCINT1), 37 PA0_(ADC0/PCINT0), 38 VCC (power), 39 GND, 40 PB0_(XCK0/T0/PCINT8), 41 PB1_(T1/CLKO/PCINT9), 42 PB2_(AIN0/INT2/PCINT10), 43 PB3_(AIN1/OC0A/PCINT11), 44 PB4_(~SS/OC0B/PCINT12)

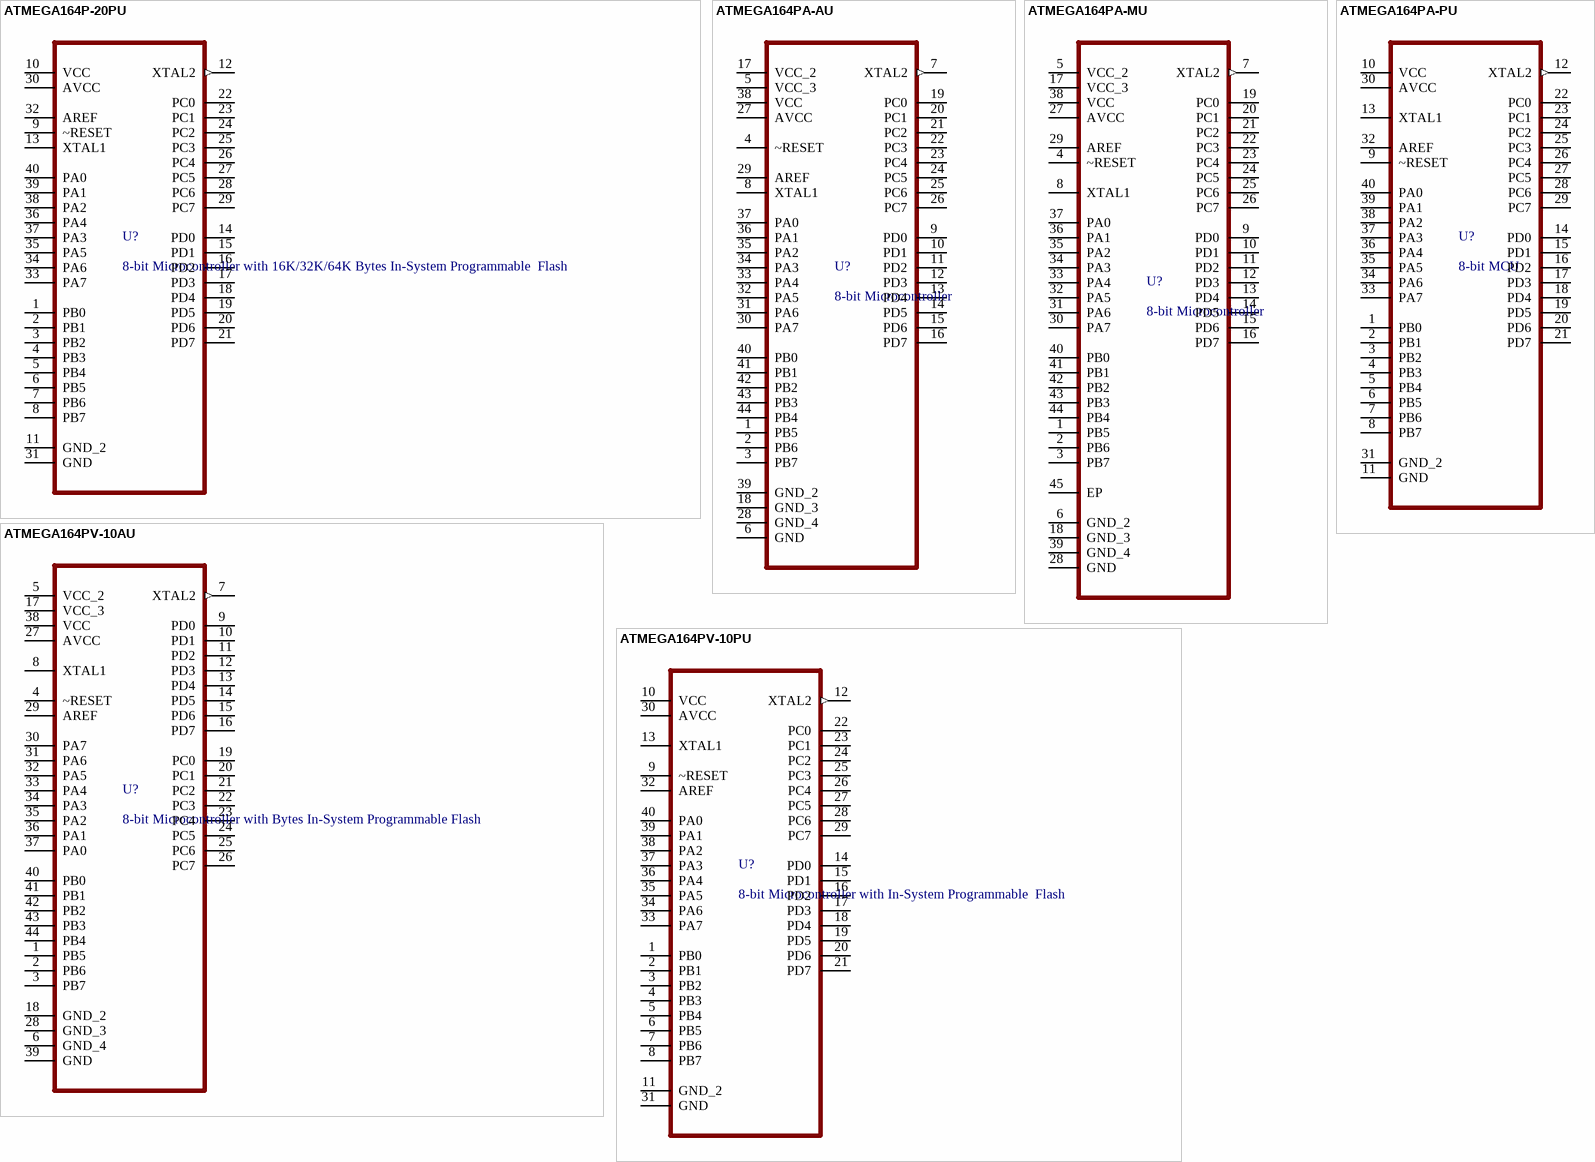
[diagram p25: symbols ATMEGA164P-20PU to ATMEGA164PV-10PU]

## ATMEGA164P-20PU
designator U?, comment 8-bit Microcontroller with 16K/32K/64K Bytes In-System Programmable  Flash
MPN: ATMEGA164P-20PU; OC_FARNELL: 1455099; OC_NEWARK: 58M3726; PACKAGE: DIP-40; SUPPLIER: Atmel
footprint DIP254P1524X482-40
pins: 1 PB0, 2 PB1, 3 PB2, 4 PB3, 5 PB4, 6 PB5, 7 PB6, 8 PB7, 9 ~RESET, 10 VCC (power), 11 GND_2, 12 XTAL2 (out), 13 XTAL1, 14 PD0, 15 PD1, 16 PD2, 17 PD3, 18 PD4, 19 PD5, 20 PD6, 21 PD7, 22 PC0, 23 PC1, 24 PC2, 25 PC3, 26 PC4, 27 PC5, 28 PC6, 29 PC7, 30 AVCC (power), 31 GND, 32 AREF, 33 PA7, 34 PA6, 35 PA5, 36 PA4, 37 PA3, 38 PA2, 39 PA1, 40 PA0

## ATMEGA164PA-AU
designator U?, comment 8-bit Microcontroller
MPN: ATMEGA164PA-AU; OC_FARNELL: 1748513; OC_NEWARK: 26R5626; PACKAGE: QFP-44; SUPPLIER: Atmel
footprint QFP80P1200X1200X120-44N
pins: 1 PB5, 2 PB6, 3 PB7, 4 ~RESET, 5 VCC_3 (power), 6 GND, 7 XTAL2 (out), 8 XTAL1, 9 PD0, 10 PD1, 11 PD2, 12 PD3, 13 PD4, 14 PD5, 15 PD6, 16 PD7, 17 VCC_2 (power), 18 GND_3, 19 PC0, 20 PC1, 21 PC2, 22 PC3, 23 PC4, 24 PC5, 25 PC6, 26 PC7, 27 AVCC (power), 28 GND_4, 29 AREF, 30 PA7, 31 PA6, 32 PA5, 33 PA4, 34 PA3, 35 PA2, 36 PA1, 37 PA0, 38 VCC (power), 39 GND_2, 40 PB0, 41 PB1, 42 PB2, 43 PB3, 44 PB4

## ATMEGA164PA-MU
designator U?, comment 8-bit Microcontroller
MPN: ATMEGA164PA-MU; OC_FARNELL: 1748514; OC_NEWARK: 26R5627; PACKAGE: QFN-44; SUPPLIER: Atmel
footprint QFN50P700X700X100-45N
pins: 1 PB5, 2 PB6, 3 PB7, 4 ~RESET, 5 VCC_2 (power), 6 GND_2, 7 XTAL2 (out), 8 XTAL1, 9 PD0, 10 PD1, 11 PD2, 12 PD3, 13 PD4, 14 PD5, 15 PD6, 16 PD7, 17 VCC_3 (power), 18 GND_3, 19 PC0, 20 PC1, 21 PC2, 22 PC3, 23 PC4, 24 PC5, 25 PC6, 26 PC7, 27 AVCC (power), 28 GND, 29 AREF, 30 PA7, 31 PA6, 32 PA5, 33 PA4, 34 PA3, 35 PA2, 36 PA1, 37 PA0, 38 VCC (power), 39 GND_4, 40 PB0, 41 PB1, 42 PB2, 43 PB3, 44 PB4, 45 EP

## ATMEGA164PA-PU
designator U?, comment 8-bit MCU
MPN: ATMEGA164PA-PU; OC_FARNELL: 1748515; OC_NEWARK: 26R5628; PACKAGE: DIP-40; SUPPLIER: Atmel
footprint DIP254P1524X482-40
pins: 1 PB0, 2 PB1, 3 PB2, 4 PB3, 5 PB4, 6 PB5, 7 PB6, 8 PB7, 9 ~RESET, 10 VCC (power), 11 GND, 12 XTAL2 (out), 13 XTAL1, 14 PD0, 15 PD1, 16 PD2, 17 PD3, 18 PD4, 19 PD5, 20 PD6, 21 PD7, 22 PC0, 23 PC1, 24 PC2, 25 PC3, 26 PC4, 27 PC5, 28 PC6, 29 PC7, 30 AVCC (power), 31 GND_2, 32 AREF, 33 PA7, 34 PA6, 35 PA5, 36 PA4, 37 PA3, 38 PA2, 39 PA1, 40 PA0

## ATMEGA164PV-10AU
designator U?, comment 8-bit Microcontroller with Bytes In-System Programmable Flash
MPN: ATMEGA164PV-10AU; OC_FARNELL: 1455100; OC_NEWARK: 58M3727; PACKAGE: TQFP-44; SUPPLIER: Atmel
footprint QFP80P1200X1200X120-44N
pins: 1 PB5, 2 PB6, 3 PB7, 4 ~RESET, 5 VCC_2 (power), 6 GND_4, 7 XTAL2 (out), 8 XTAL1, 9 PD0, 10 PD1, 11 PD2, 12 PD3, 13 PD4, 14 PD5, 15 PD6, 16 PD7, 17 VCC_3 (power), 18 GND_2, 19 PC0, 20 PC1, 21 PC2, 22 PC3, 23 PC4, 24 PC5, 25 PC6, 26 PC7, 27 AVCC (power), 28 GND_3, 29 AREF, 30 PA7, 31 PA6, 32 PA5, 33 PA4, 34 PA3, 35 PA2, 36 PA1, 37 PA0, 38 VCC (power), 39 GND, 40 PB0, 41 PB1, 42 PB2, 43 PB3, 44 PB4

## ATMEGA164PV-10PU
designator U?, comment 8-bit Microcontroller with In-System Programmable  Flash
MPN: ATMEGA164PV-10PU; OC_FARNELL: 1455101; OC_NEWARK: 58M3728; PACKAGE: PDIP-40; SUPPLIER: Atmel
footprint DIP254P1524X483-40
pins: 1 PB0, 2 PB1, 3 PB2, 4 PB3, 5 PB4, 6 PB5, 7 PB6, 8 PB7, 9 ~RESET, 10 VCC (power), 11 GND_2, 12 XTAL2 (out), 13 XTAL1, 14 PD0, 15 PD1, 16 PD2, 17 PD3, 18 PD4, 19 PD5, 20 PD6, 21 PD7, 22 PC0, 23 PC1, 24 PC2, 25 PC3, 26 PC4, 27 PC5, 28 PC6, 29 PC7, 30 AVCC (power), 31 GND, 32 AREF, 33 PA7, 34 PA6, 35 PA5, 36 PA4, 37 PA3, 38 PA2, 39 PA1, 40 PA0

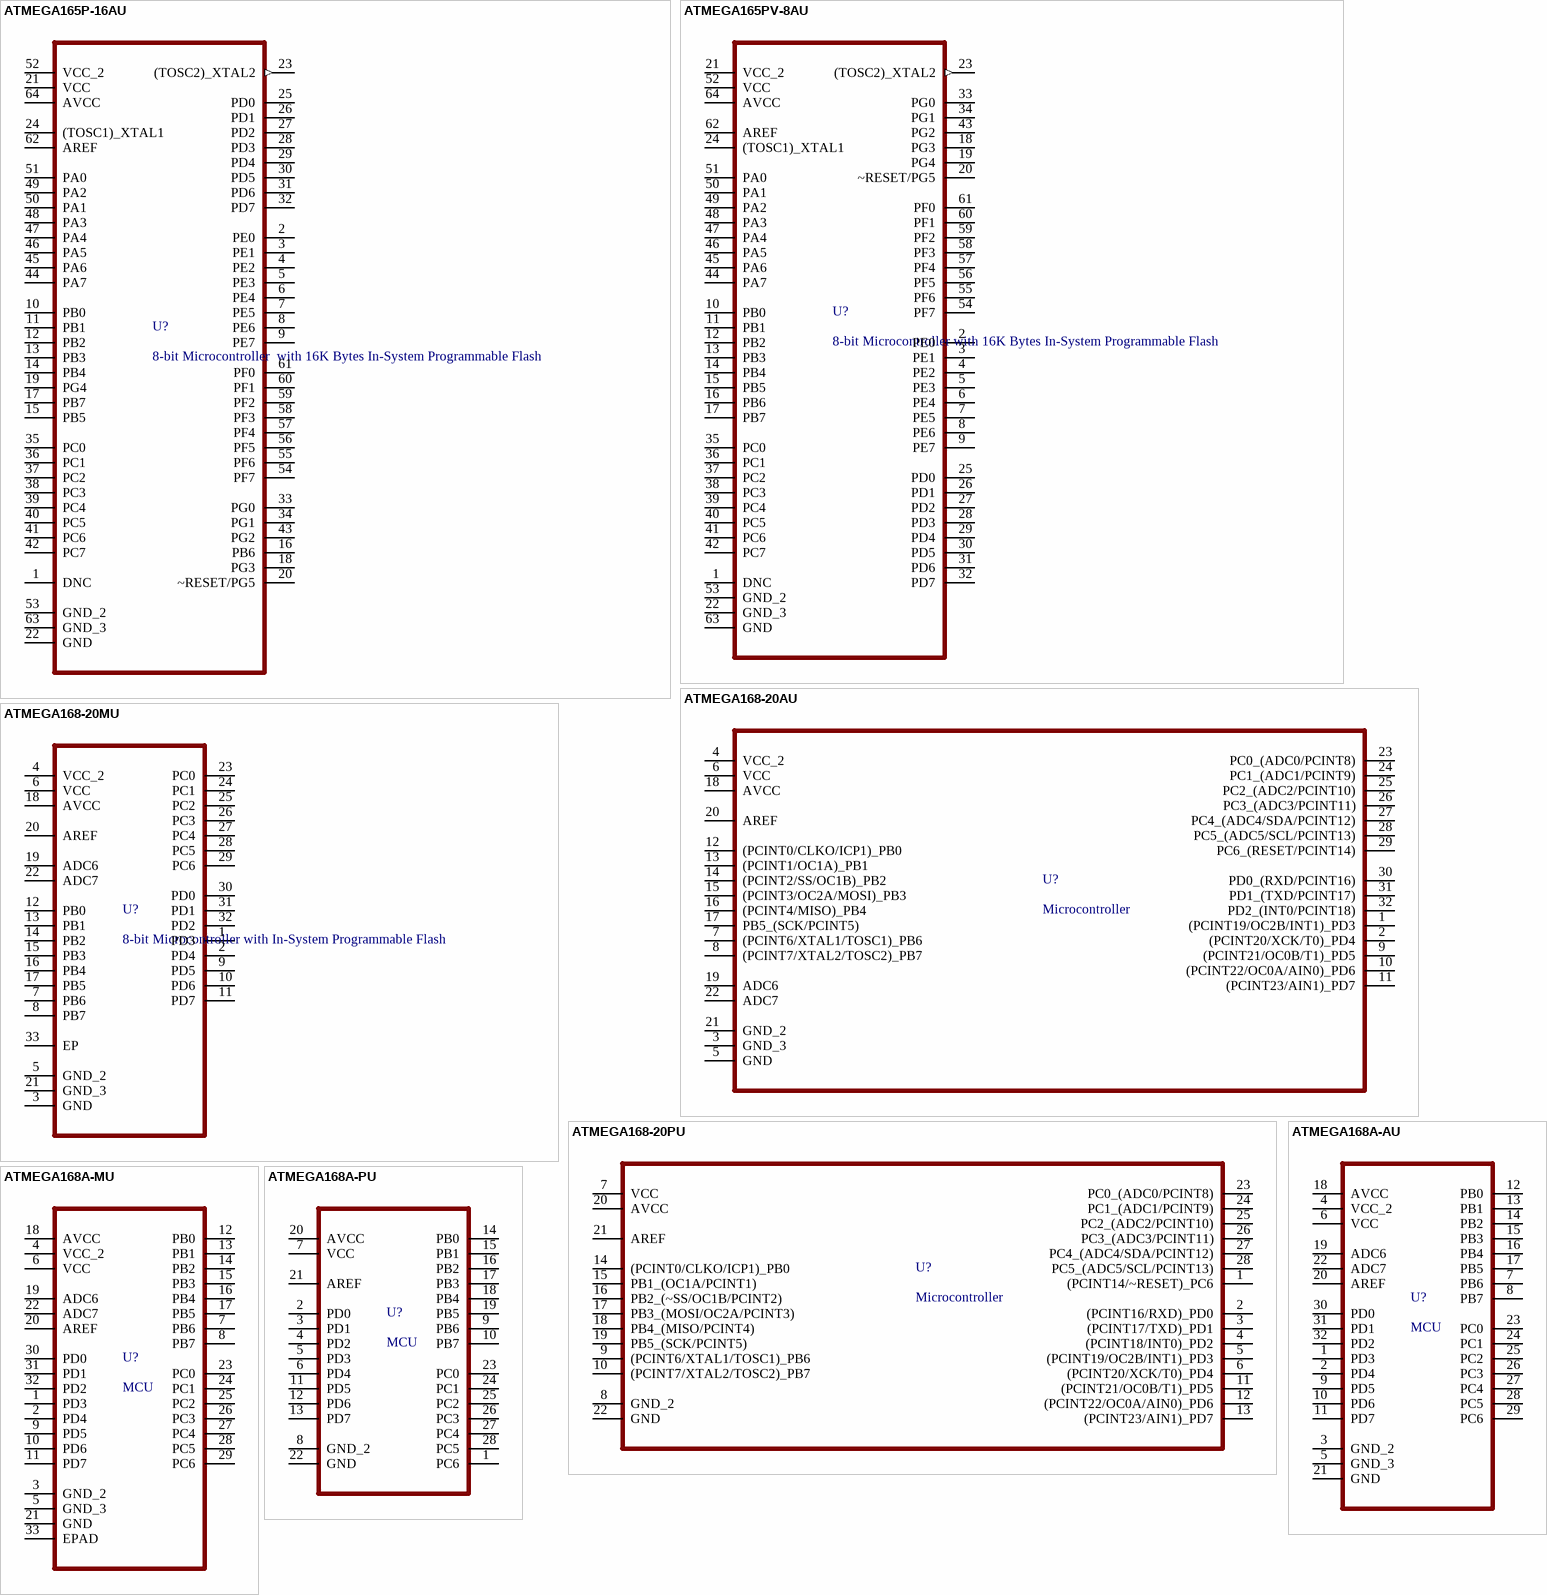
[diagram p26: symbols ATMEGA165P-16AU to ATMEGA168A-PU]

## ATMEGA165P-16AU
designator U?, comment 8-bit Microcontroller  with 16K Bytes In-System Programmable Flash
MPN: ATMEGA165P-16AU; OC_FARNELL: 1455103; OC_NEWARK: 58M3729; PACKAGE: TQFP-64; SUPPLIER: Atmel
footprint QFP80P1600X1600X120-64N
pins: 1 DNC, 2 PE0, 3 PE1, 4 PE2, 5 PE3, 6 PE4, 7 PE5, 8 PE6, 9 PE7, 10 PB0, 11 PB1, 12 PB2, 13 PB3, 14 PB4, 15 PB5, 16 PB6, 17 PB7, 18 PG3, 19 PG4, 20 ~RESET/PG5, 21 VCC (power), 22 GND, 23 (TOSC2)_XTAL2 (out), 24 (TOSC1)_XTAL1, 25 PD0, 26 PD1, 27 PD2, 28 PD3, 29 PD4, 30 PD5, 31 PD6, 32 PD7, 33 PG0, 34 PG1, 35 PC0, 36 PC1, 37 PC2, 38 PC3, 39 PC4, 40 PC5, 41 PC6, 42 PC7, 43 PG2, 44 PA7, 45 PA6, 46 PA5, 47 PA4, 48 PA3, 49 PA2, 50 PA1, 51 PA0, 52 VCC_2 (power), 53 GND_2, 54 PF7, 55 PF6, 56 PF5, 57 PF4, 58 PF3, 59 PF2, 60 PF1, 61 PF0, 62 AREF, 63 GND_3, 64 AVCC (power)

## ATMEGA165PV-8AU
designator U?, comment 8-bit Microcontroller with 16K Bytes In-System Programmable Flash
MPN: ATMEGA165PV-8AU; OC_FARNELL: 1455104; OC_NEWARK: 58M3730; PACKAGE: TQFP-64; SUPPLIER: Atmel
footprint QFP80P1600X1600X120-64N
pins: 1 DNC, 2 PE0, 3 PE1, 4 PE2, 5 PE3, 6 PE4, 7 PE5, 8 PE6, 9 PE7, 10 PB0, 11 PB1, 12 PB2, 13 PB3, 14 PB4, 15 PB5, 16 PB6, 17 PB7, 18 PG3, 19 PG4, 20 ~RESET/PG5, 21 VCC_2 (power), 22 GND_3, 23 (TOSC2)_XTAL2 (out), 24 (TOSC1)_XTAL1, 25 PD0, 26 PD1, 27 PD2, 28 PD3, 29 PD4, 30 PD5, 31 PD6, 32 PD7, 33 PG0, 34 PG1, 35 PC0, 36 PC1, 37 PC2, 38 PC3, 39 PC4, 40 PC5, 41 PC6, 42 PC7, 43 PG2, 44 PA7, 45 PA6, 46 PA5, 47 PA4, 48 PA3, 49 PA2, 50 PA1, 51 PA0, 52 VCC (power), 53 GND_2, 54 PF7, 55 PF6, 56 PF5, 57 PF4, 58 PF3, 59 PF2, 60 PF1, 61 PF0, 62 AREF, 63 GND, 64 AVCC (power)

## ATMEGA168-20AU
designator U?, comment Microcontroller
MPN: ATMEGA168-20AU; OC_FARNELL: 9171193; OC_NEWARK: 01M6891; PACKAGE: QFP-32; SUPPLIER: ATMEL
footprint QFP80P900X900X120-32N
pins: 1 (PCINT19/OC2B/INT1)_PD3, 2 (PCINT20/XCK/T0)_PD4, 3 GND_3, 4 VCC_2 (power), 5 GND, 6 VCC (power), 7 (PCINT6/XTAL1/TOSC1)_PB6, 8 (PCINT7/XTAL2/TOSC2)_PB7, 9 (PCINT21/OC0B/T1)_PD5, 10 (PCINT22/OC0A/AIN0)_PD6, 11 (PCINT23/AIN1)_PD7, 12 (PCINT0/CLKO/ICP1)_PB0, 13 (PCINT1/OC1A)_PB1, 14 (PCINT2/SS/OC1B)_PB2, 15 (PCINT3/OC2A/MOSI)_PB3, 16 (PCINT4/MISO)_PB4, 17 PB5_(SCK/PCINT5), 18 AVCC (power), 19 ADC6, 20 AREF, 21 GND_2, 22 ADC7, 23 PC0_(ADC0/PCINT8), 24 PC1_(ADC1/PCINT9), 25 PC2_(ADC2/PCINT10), 26 PC3_(ADC3/PCINT11), 27 PC4_(ADC4/SDA/PCINT12), 28 PC5_(ADC5/SCL/PCINT13), 29 PC6_(RESET/PCINT14), 30 PD0_(RXD/PCINT16), 31 PD1_(TXD/PCINT17), 32 PD2_(INT0/PCINT18)

## ATMEGA168-20MU
designator U?, comment 8-bit Microcontroller with In-System Programmable Flash
MPN: ATMEGA168-20MU; OC_FARNELL: 1455105; OC_NEWARK: 58M3731; PACKAGE: QFN-32; SUPPLIER: Atmel
footprint QFN50P500X500X100-33N
pins: 1 PD3, 2 PD4, 3 GND, 4 VCC_2 (power), 5 GND_2, 6 VCC (power), 7 PB6, 8 PB7, 9 PD5, 10 PD6, 11 PD7, 12 PB0, 13 PB1, 14 PB2, 15 PB3, 16 PB4, 17 PB5, 18 AVCC (power), 19 ADC6, 20 AREF, 21 GND_3, 22 ADC7, 23 PC0, 24 PC1, 25 PC2, 26 PC3, 27 PC4, 28 PC5, 29 PC6, 30 PD0, 31 PD1, 32 PD2, 33 EP

## ATMEGA168-20PU
designator U?, comment Microcontroller
MPN: ATMEGA168-20PU; OC_FARNELL: 9171207; OC_NEWARK: 01M6892; PACKAGE: PCDIP-28; SUPPLIER: ATMEL
footprint DIP254P762X457-28
pins: 1 (PCINT14/~RESET)_PC6, 2 (PCINT16/RXD)_PD0, 3 (PCINT17/TXD)_PD1, 4 (PCINT18/INT0)_PD2, 5 (PCINT19/OC2B/INT1)_PD3, 6 (PCINT20/XCK/T0)_PD4, 7 VCC (power), 8 GND_2, 9 (PCINT6/XTAL1/TOSC1)_PB6, 10 (PCINT7/XTAL2/TOSC2)_PB7, 11 (PCINT21/OC0B/T1)_PD5, 12 (PCINT22/OC0A/AIN0)_PD6, 13 (PCINT23/AIN1)_PD7, 14 (PCINT0/CLKO/ICP1)_PB0, 15 PB1_(OC1A/PCINT1), 16 PB2_(~SS/OC1B/PCINT2), 17 PB3_(MOSI/OC2A/PCINT3), 18 PB4_(MISO/PCINT4), 19 PB5_(SCK/PCINT5), 20 AVCC (power), 21 AREF, 22 GND, 23 PC0_(ADC0/PCINT8), 24 PC1_(ADC1/PCINT9), 25 PC2_(ADC2/PCINT10), 26 PC3_(ADC3/PCINT11), 27 PC4_(ADC4/SDA/PCINT12), 28 PC5_(ADC5/SCL/PCINT13)

## ATMEGA168A-AU
designator U?, comment MCU
MPN: ATMEGA168A-AU; OC_FARNELL: 1841603; OC_NEWARK: 12T1295; PACKAGE: QFP-32; SUPPLIER: Atmel
footprint QFP80P900X900X120-32N
pins: 1 PD3, 2 PD4, 3 GND_2, 4 VCC_2 (power), 5 GND_3, 6 VCC (power), 7 PB6, 8 PB7, 9 PD5, 10 PD6, 11 PD7, 12 PB0, 13 PB1, 14 PB2, 15 PB3, 16 PB4, 17 PB5, 18 AVCC (power), 19 ADC6, 20 AREF, 21 GND, 22 ADC7, 23 PC0, 24 PC1, 25 PC2, 26 PC3, 27 PC4, 28 PC5, 29 PC6, 30 PD0, 31 PD1, 32 PD2

## ATMEGA168A-MU
designator U?, comment MCU
MPN: ATMEGA168A-MU; OC_FARNELL: 1841604; OC_NEWARK: -; PACKAGE: QFN-32; SUPPLIER: Atmel
footprint QFN50P500X500X100-33N
pins: 1 PD3, 2 PD4, 3 GND_2, 4 VCC_2 (power), 5 GND_3, 6 VCC (power), 7 PB6, 8 PB7, 9 PD5, 10 PD6, 11 PD7, 12 PB0, 13 PB1, 14 PB2, 15 PB3, 16 PB4, 17 PB5, 18 AVCC (power), 19 ADC6, 20 AREF, 21 GND, 22 ADC7, 23 PC0, 24 PC1, 25 PC2, 26 PC3, 27 PC4, 28 PC5, 29 PC6, 30 PD0, 31 PD1, 32 PD2, 33 EPAD

## ATMEGA168A-PU
designator U?, comment MCU
MPN: ATMEGA168A-PU; OC_FARNELL: 1841605; OC_NEWARK: 12T1297; PACKAGE: DIP-28; SUPPLIER: Atmel
footprint DIP254P762X457-28
pins: 1 PC6, 2 PD0, 3 PD1, 4 PD2, 5 PD3, 6 PD4, 7 VCC (power), 8 GND_2, 9 PB6, 10 PB7, 11 PD5, 12 PD6, 13 PD7, 14 PB0, 15 PB1, 16 PB2, 17 PB3, 18 PB4, 19 PB5, 20 AVCC (power), 21 AREF, 22 GND, 23 PC0, 24 PC1, 25 PC2, 26 PC3, 27 PC4, 28 PC5

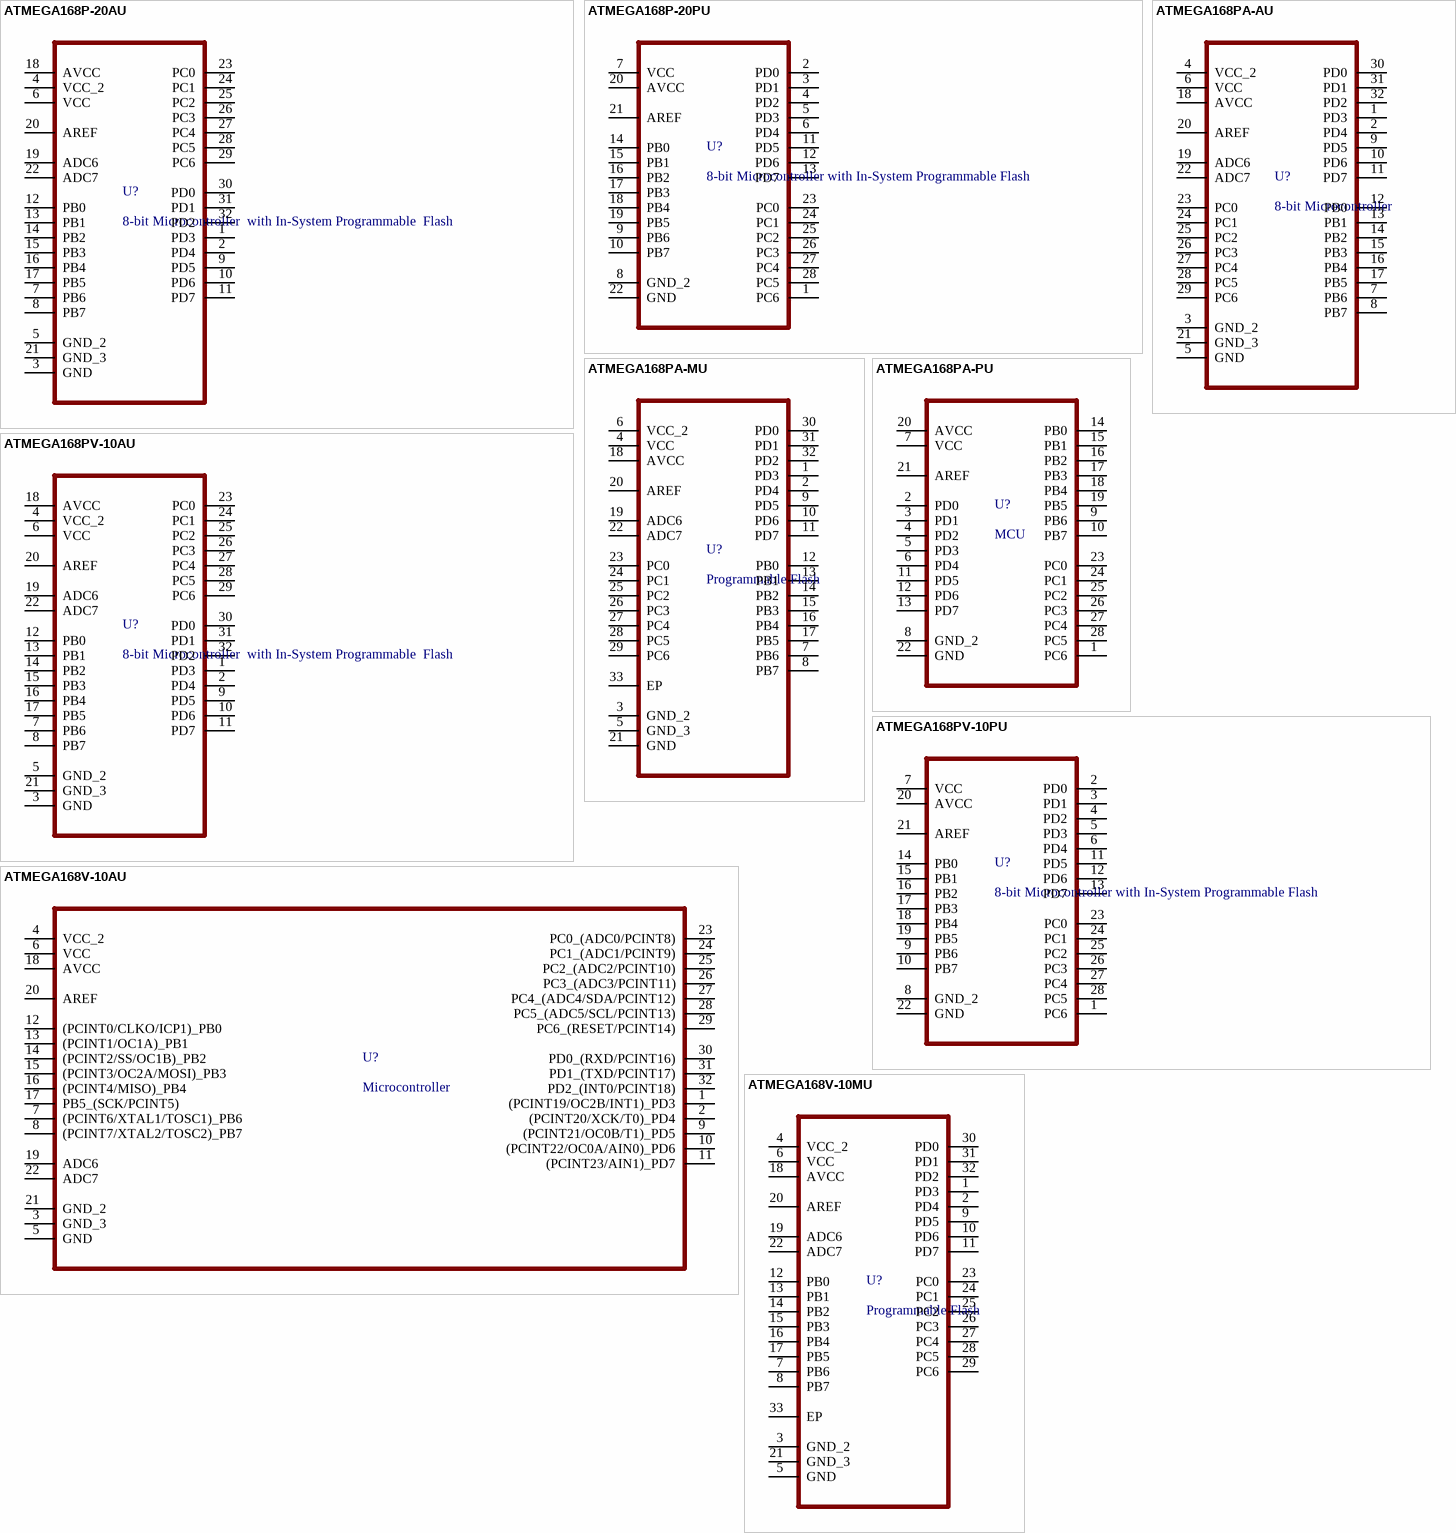
[diagram p27: symbols ATMEGA168P-20AU to ATMEGA168V-10MU]

## ATMEGA168P-20AU
designator U?, comment 8-bit Microcontroller  with In-System Programmable  Flash
MPN: ATMEGA168P-20AU; OC_FARNELL: 1636932; OC_NEWARK: 03P2020; PACKAGE: TQFP-32; SUPPLIER: Atmel
footprint QFP80P900X900X120-32N
pins: 1 PD3, 2 PD4, 3 GND, 4 VCC_2 (power), 5 GND_2, 6 VCC (power), 7 PB6, 8 PB7, 9 PD5, 10 PD6, 11 PD7, 12 PB0, 13 PB1, 14 PB2, 15 PB3, 16 PB4, 17 PB5, 18 AVCC (power), 19 ADC6, 20 AREF, 21 GND_3, 22 ADC7, 23 PC0, 24 PC1, 25 PC2, 26 PC3, 27 PC4, 28 PC5, 29 PC6, 30 PD0, 31 PD1, 32 PD2

## ATMEGA168P-20PU
designator U?, comment 8-bit Microcontroller with In-System Programmable Flash
MPN: ATMEGA168P-20PU; OC_FARNELL: 1636933; OC_NEWARK: 03P2021; PACKAGE: PDIP-28; SUPPLIER: Atmel
footprint DIP254P762X457-28
pins: 1 PC6, 2 PD0, 3 PD1, 4 PD2, 5 PD3, 6 PD4, 7 VCC (power), 8 GND_2, 9 PB6, 10 PB7, 11 PD5, 12 PD6, 13 PD7, 14 PB0, 15 PB1, 16 PB2, 17 PB3, 18 PB4, 19 PB5, 20 AVCC (power), 21 AREF, 22 GND, 23 PC0, 24 PC1, 25 PC2, 26 PC3, 27 PC4, 28 PC5

## ATMEGA168PA-AU
designator U?, comment 8-bit Microcontroller
MPN: ATMEGA168PA-AU; OC_FARNELL: 1748516; OC_NEWARK: 26R5629; PACKAGE: TQFP-32; SUPPLIER: Atmel
footprint QFP80P900X900X120-32N
pins: 1 PD3, 2 PD4, 3 GND_2, 4 VCC_2 (power), 5 GND, 6 VCC (power), 7 PB6, 8 PB7, 9 PD5, 10 PD6, 11 PD7, 12 PB0, 13 PB1, 14 PB2, 15 PB3, 16 PB4, 17 PB5, 18 AVCC (power), 19 ADC6, 20 AREF, 21 GND_3, 22 ADC7, 23 PC0, 24 PC1, 25 PC2, 26 PC3, 27 PC4, 28 PC5, 29 PC6, 30 PD0, 31 PD1, 32 PD2

## ATMEGA168PA-MU
designator U?, comment Programmable Flash
MPN: ATMEGA168PA-MU; OC_FARNELL: 1748517; OC_NEWARK: 26R5630; PACKAGE: QFN-32; SUPPLIER: Atmel
footprint QFN50P500X500X100-33N
pins: 1 PD3, 2 PD4, 3 GND_2, 4 VCC (power), 5 GND_3, 6 VCC_2 (power), 7 PB6, 8 PB7, 9 PD5, 10 PD6, 11 PD7, 12 PB0, 13 PB1, 14 PB2, 15 PB3, 16 PB4, 17 PB5, 18 AVCC (power), 19 ADC6, 20 AREF, 21 GND, 22 ADC7, 23 PC0, 24 PC1, 25 PC2, 26 PC3, 27 PC4, 28 PC5, 29 PC6, 30 PD0, 31 PD1, 32 PD2, 33 EP

## ATMEGA168PA-PU
designator U?, comment MCU
MPN: ATMEGA168PA-PU; OC_FARNELL: 1841606; OC_NEWARK: 12T1298; PACKAGE: DIP-28; SUPPLIER: Atmel
footprint DIP254P762X457-28
pins: 1 PC6, 2 PD0, 3 PD1, 4 PD2, 5 PD3, 6 PD4, 7 VCC (power), 8 GND_2, 9 PB6, 10 PB7, 11 PD5, 12 PD6, 13 PD7, 14 PB0, 15 PB1, 16 PB2, 17 PB3, 18 PB4, 19 PB5, 20 AVCC (power), 21 AREF, 22 GND, 23 PC0, 24 PC1, 25 PC2, 26 PC3, 27 PC4, 28 PC5

## ATMEGA168PV-10AU
designator U?, comment 8-bit Microcontroller  with In-System Programmable  Flash
MPN: ATMEGA168PV-10AU; OC_FARNELL: 1636934; OC_NEWARK: 03P2022; PACKAGE: TQFP-32; SUPPLIER: Atmel
footprint QFP80P900X900X120-32N
pins: 1 PD3, 2 PD4, 3 GND, 4 VCC_2 (power), 5 GND_2, 6 VCC (power), 7 PB6, 8 PB7, 9 PD5, 10 PD6, 11 PD7, 12 PB0, 13 PB1, 14 PB2, 15 PB3, 16 PB4, 17 PB5, 18 AVCC (power), 19 ADC6, 20 AREF, 21 GND_3, 22 ADC7, 23 PC0, 24 PC1, 25 PC2, 26 PC3, 27 PC4, 28 PC5, 29 PC6, 30 PD0, 31 PD1, 32 PD2

## ATMEGA168PV-10PU
designator U?, comment 8-bit Microcontroller with In-System Programmable Flash
MPN: ATMEGA168PV-10PU; OC_FARNELL: 1636936; OC_NEWARK: 03P2023; PACKAGE: PDIP-28; SUPPLIER: Atmel
footprint DIP254P762X457-28
pins: 1 PC6, 2 PD0, 3 PD1, 4 PD2, 5 PD3, 6 PD4, 7 VCC (power), 8 GND_2, 9 PB6, 10 PB7, 11 PD5, 12 PD6, 13 PD7, 14 PB0, 15 PB1, 16 PB2, 17 PB3, 18 PB4, 19 PB5, 20 AVCC (power), 21 AREF, 22 GND, 23 PC0, 24 PC1, 25 PC2, 26 PC3, 27 PC4, 28 PC5

## ATMEGA168V-10AU
designator U?, comment Microcontroller
MPN: ATMEGA168V-10AU; OC_FARNELL: 9171215; OC_NEWARK: 73M8857; PACKAGE: QFP-32; SUPPLIER: ATMEL
footprint QFP80P900X900X120-32N
pins: 1 (PCINT19/OC2B/INT1)_PD3, 2 (PCINT20/XCK/T0)_PD4, 3 GND_3, 4 VCC_2 (power), 5 GND, 6 VCC (power), 7 (PCINT6/XTAL1/TOSC1)_PB6, 8 (PCINT7/XTAL2/TOSC2)_PB7, 9 (PCINT21/OC0B/T1)_PD5, 10 (PCINT22/OC0A/AIN0)_PD6, 11 (PCINT23/AIN1)_PD7, 12 (PCINT0/CLKO/ICP1)_PB0, 13 (PCINT1/OC1A)_PB1, 14 (PCINT2/SS/OC1B)_PB2, 15 (PCINT3/OC2A/MOSI)_PB3, 16 (PCINT4/MISO)_PB4, 17 PB5_(SCK/PCINT5), 18 AVCC (power), 19 ADC6, 20 AREF, 21 GND_2, 22 ADC7, 23 PC0_(ADC0/PCINT8), 24 PC1_(ADC1/PCINT9), 25 PC2_(ADC2/PCINT10), 26 PC3_(ADC3/PCINT11), 27 PC4_(ADC4/SDA/PCINT12), 28 PC5_(ADC5/SCL/PCINT13), 29 PC6_(RESET/PCINT14), 30 PD0_(RXD/PCINT16), 31 PD1_(TXD/PCINT17), 32 PD2_(INT0/PCINT18)

## ATMEGA168V-10MU
designator U?, comment Programmable Flash
MPN: ATMEGA168V-10MU; OC_FARNELL: 1455106; OC_NEWARK: 58M3732; PACKAGE: QFN-32; SUPPLIER: Atmel
footprint QFN50P500X500X100-33N
pins: 1 PD3, 2 PD4, 3 GND_2, 4 VCC_2 (power), 5 GND, 6 VCC (power), 7 PB6, 8 PB7, 9 PD5, 10 PD6, 11 PD7, 12 PB0, 13 PB1, 14 PB2, 15 PB3, 16 PB4, 17 PB5, 18 AVCC (power), 19 ADC6, 20 AREF, 21 GND_3, 22 ADC7, 23 PC0, 24 PC1, 25 PC2, 26 PC3, 27 PC4, 28 PC5, 29 PC6, 30 PD0, 31 PD1, 32 PD2, 33 EP

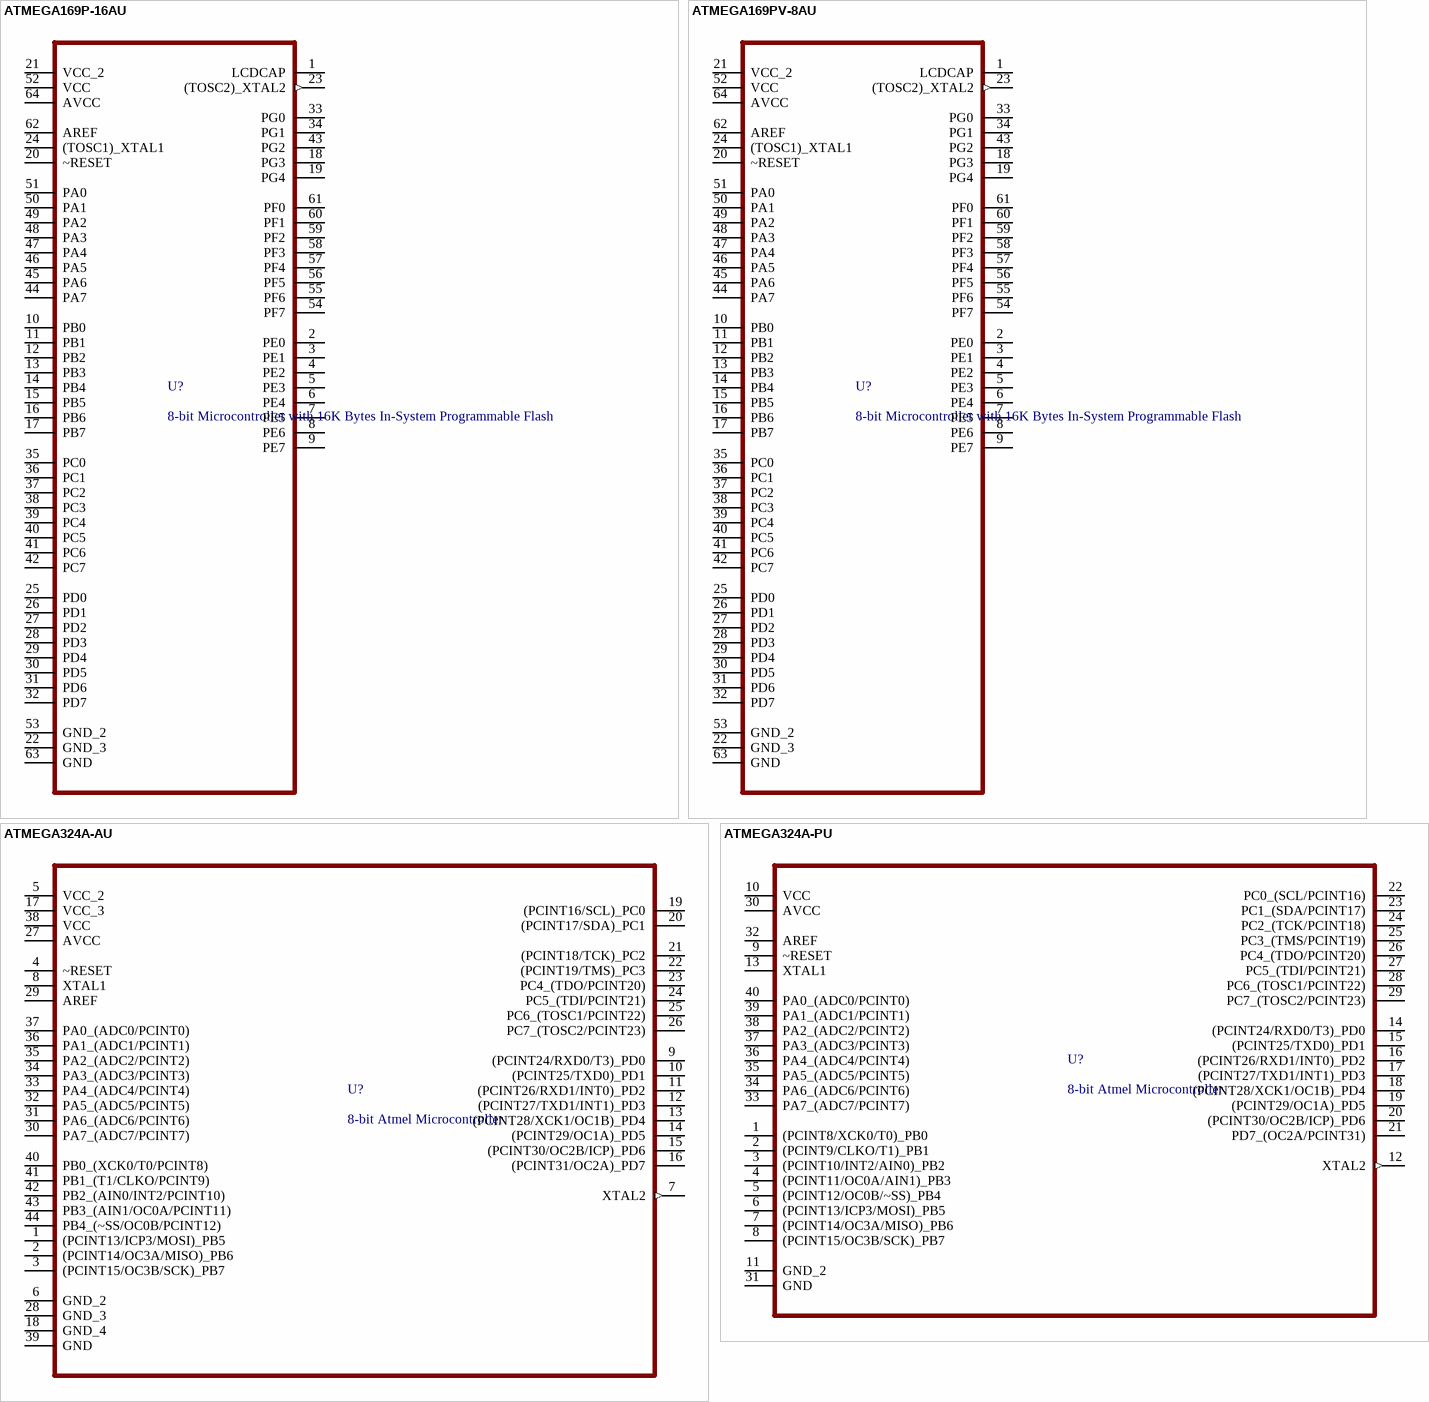
[diagram p28: symbols ATMEGA169P-16AU to ATMEGA324A-PU]

## ATMEGA169P-16AU
designator U?, comment 8-bit Microcontroller with 16K Bytes In-System Programmable Flash
MPN: ATMEGA169P-16AU; OC_FARNELL: 1675975; OC_NEWARK: 33P6478; PACKAGE: TQFP-64; SUPPLIER: Atmel
footprint QFP80P1600X1600X120-64N
pins: 1 LCDCAP, 2 PE0, 3 PE1, 4 PE2, 5 PE3, 6 PE4, 7 PE5, 8 PE6, 9 PE7, 10 PB0, 11 PB1, 12 PB2, 13 PB3, 14 PB4, 15 PB5, 16 PB6, 17 PB7, 18 PG3, 19 PG4, 20 ~RESET, 21 VCC_2 (power), 22 GND_3, 23 (TOSC2)_XTAL2 (out), 24 (TOSC1)_XTAL1, 25 PD0, 26 PD1, 27 PD2, 28 PD3, 29 PD4, 30 PD5, 31 PD6, 32 PD7, 33 PG0, 34 PG1, 35 PC0, 36 PC1, 37 PC2, 38 PC3, 39 PC4, 40 PC5, 41 PC6, 42 PC7, 43 PG2, 44 PA7, 45 PA6, 46 PA5, 47 PA4, 48 PA3, 49 PA2, 50 PA1, 51 PA0, 52 VCC (power), 53 GND_2, 54 PF7, 55 PF6, 56 PF5, 57 PF4, 58 PF3, 59 PF2, 60 PF1, 61 PF0, 62 AREF, 63 GND, 64 AVCC (power)

## ATMEGA169PV-8AU
designator U?, comment 8-bit Microcontroller with 16K Bytes In-System Programmable Flash
MPN: ATMEGA169PV-8AU; OC_FARNELL: 1617046; OC_NEWARK: 03P4011; PACKAGE: TQFP-64; SUPPLIER: Atmel
footprint QFP80P1600X1600X120-64N
pins: 1 LCDCAP, 2 PE0, 3 PE1, 4 PE2, 5 PE3, 6 PE4, 7 PE5, 8 PE6, 9 PE7, 10 PB0, 11 PB1, 12 PB2, 13 PB3, 14 PB4, 15 PB5, 16 PB6, 17 PB7, 18 PG3, 19 PG4, 20 ~RESET, 21 VCC_2 (power), 22 GND_3, 23 (TOSC2)_XTAL2 (out), 24 (TOSC1)_XTAL1, 25 PD0, 26 PD1, 27 PD2, 28 PD3, 29 PD4, 30 PD5, 31 PD6, 32 PD7, 33 PG0, 34 PG1, 35 PC0, 36 PC1, 37 PC2, 38 PC3, 39 PC4, 40 PC5, 41 PC6, 42 PC7, 43 PG2, 44 PA7, 45 PA6, 46 PA5, 47 PA4, 48 PA3, 49 PA2, 50 PA1, 51 PA0, 52 VCC (power), 53 GND_2, 54 PF7, 55 PF6, 56 PF5, 57 PF4, 58 PF3, 59 PF2, 60 PF1, 61 PF0, 62 AREF, 63 GND, 64 AVCC (power)

## ATMEGA324A-AU
designator U?, comment 8-bit Atmel Microcontroller
MPN: ATMEGA324A-AU; OC_FARNELL: 1841608; OC_NEWARK: 12T1299; PACKAGE: QFP-44; SUPPLIER: Atmel
footprint QFP80P1200X1200X120-44N
pins: 1 (PCINT13/ICP3/MOSI)_PB5, 2 (PCINT14/OC3A/MISO)_PB6, 3 (PCINT15/OC3B/SCK)_PB7, 4 ~RESET, 5 VCC_2 (power), 6 GND_2, 7 XTAL2 (out), 8 XTAL1, 9 (PCINT24/RXD0/T3)_PD0, 10 (PCINT25/TXD0)_PD1, 11 (PCINT26/RXD1/INT0)_PD2, 12 (PCINT27/TXD1/INT1)_PD3, 13 (PCINT28/XCK1/OC1B)_PD4, 14 (PCINT29/OC1A)_PD5, 15 (PCINT30/OC2B/ICP)_PD6, 16 (PCINT31/OC2A)_PD7, 17 VCC_3 (power), 18 GND_4, 19 (PCINT16/SCL)_PC0, 20 (PCINT17/SDA)_PC1, 21 (PCINT18/TCK)_PC2, 22 (PCINT19/TMS)_PC3, 23 PC4_(TDO/PCINT20), 24 PC5_(TDI/PCINT21), 25 PC6_(TOSC1/PCINT22), 26 PC7_(TOSC2/PCINT23), 27 AVCC (power), 28 GND_3, 29 AREF, 30 PA7_(ADC7/PCINT7), 31 PA6_(ADC6/PCINT6), 32 PA5_(ADC5/PCINT5), 33 PA4_(ADC4/PCINT4), 34 PA3_(ADC3/PCINT3), 35 PA2_(ADC2/PCINT2), 36 PA1_(ADC1/PCINT1), 37 PA0_(ADC0/PCINT0), 38 VCC (power), 39 GND, 40 PB0_(XCK0/T0/PCINT8), 41 PB1_(T1/CLKO/PCINT9), 42 PB2_(AIN0/INT2/PCINT10), 43 PB3_(AIN1/OC0A/PCINT11), 44 PB4_(~SS/OC0B/PCINT12)

## ATMEGA324A-PU
designator U?, comment 8-bit Atmel Microcontroller
MPN: ATMEGA324A-PU; OC_FARNELL: 1841611; OC_NEWARK: 68T2854; PACKAGE: DIP-40; SUPPLIER: Atmel
footprint DIP254P1524X482-40
pins: 1 (PCINT8/XCK0/T0)_PB0, 2 (PCINT9/CLKO/T1)_PB1, 3 (PCINT10/INT2/AIN0)_PB2, 4 (PCINT11/OC0A/AIN1)_PB3, 5 (PCINT12/OC0B/~SS)_PB4, 6 (PCINT13/ICP3/MOSI)_PB5, 7 (PCINT14/OC3A/MISO)_PB6, 8 (PCINT15/OC3B/SCK)_PB7, 9 ~RESET, 10 VCC (power), 11 GND_2, 12 XTAL2 (out), 13 XTAL1, 14 (PCINT24/RXD0/T3)_PD0, 15 (PCINT25/TXD0)_PD1, 16 (PCINT26/RXD1/INT0)_PD2, 17 (PCINT27/TXD1/INT1)_PD3, 18 (PCINT28/XCK1/OC1B)_PD4, 19 (PCINT29/OC1A)_PD5, 20 (PCINT30/OC2B/ICP)_PD6, 21 PD7_(OC2A/PCINT31), 22 PC0_(SCL/PCINT16), 23 PC1_(SDA/PCINT17), 24 PC2_(TCK/PCINT18), 25 PC3_(TMS/PCINT19), 26 PC4_(TDO/PCINT20), 27 PC5_(TDI/PCINT21), 28 PC6_(TOSC1/PCINT22), 29 PC7_(TOSC2/PCINT23), 30 AVCC (power), 31 GND, 32 AREF, 33 PA7_(ADC7/PCINT7), 34 PA6_(ADC6/PCINT6), 35 PA5_(ADC5/PCINT5), 36 PA4_(ADC4/PCINT4), 37 PA3_(ADC3/PCINT3), 38 PA2_(ADC2/PCINT2), 39 PA1_(ADC1/PCINT1), 40 PA0_(ADC0/PCINT0)

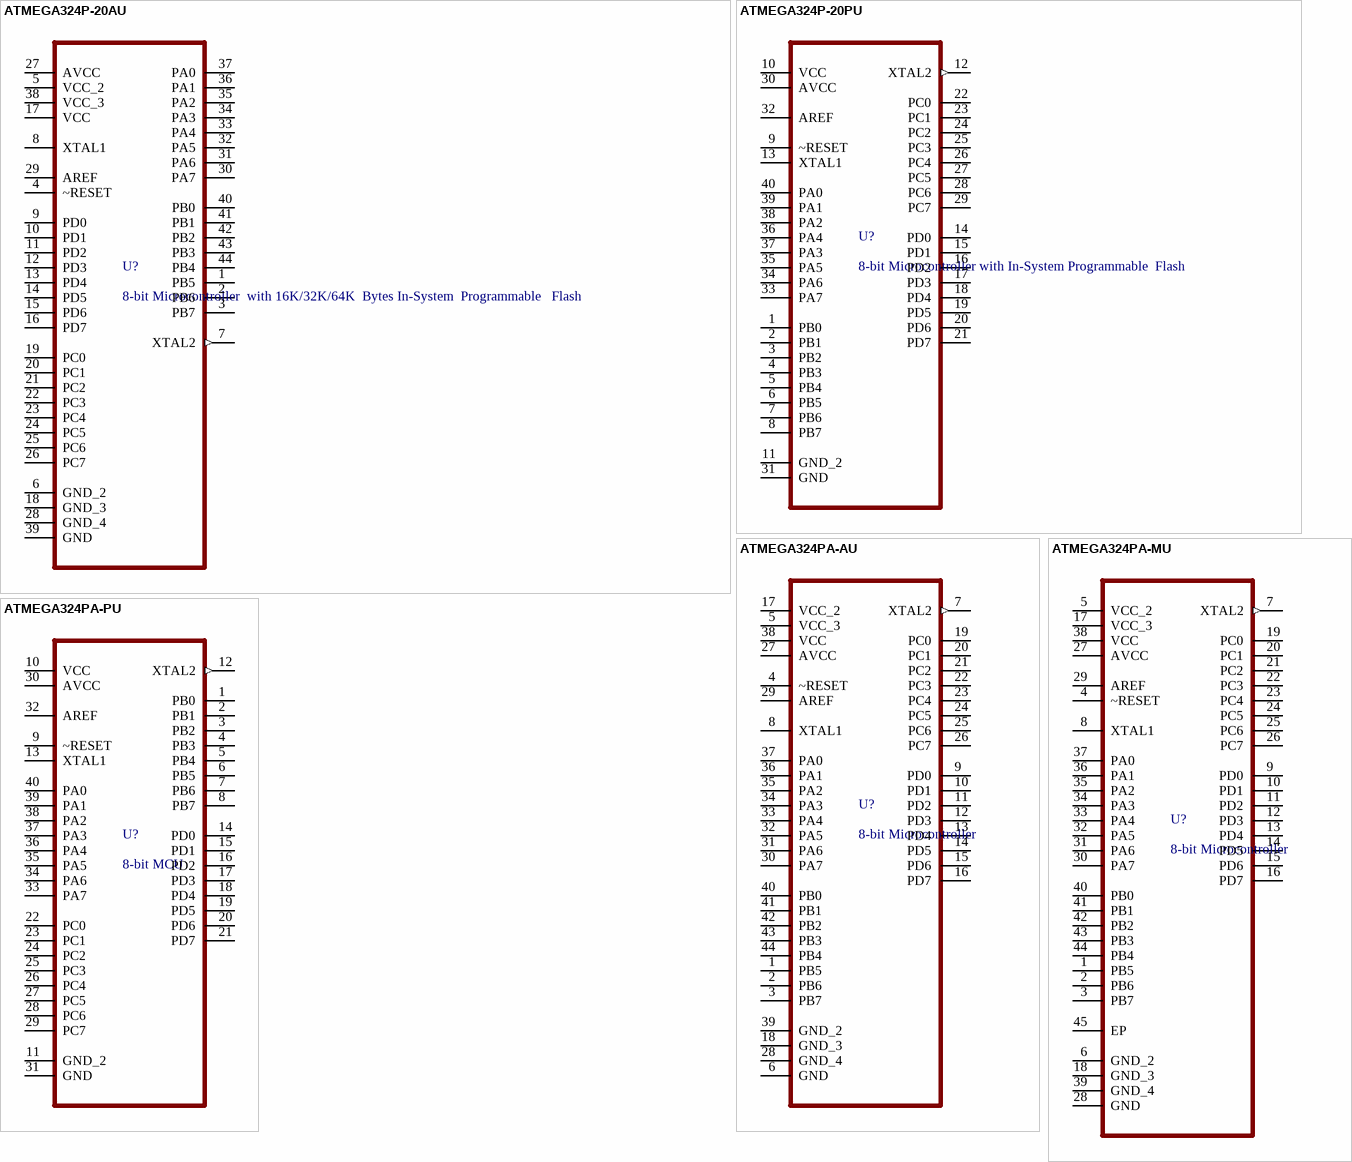
[diagram p29: symbols ATMEGA324P-20AU to ATMEGA324PA-PU]

## ATMEGA324P-20AU
designator U?, comment 8-bit Microcontroller  with 16K/32K/64K  Bytes In-System  Programmable   Flash
MPN: ATMEGA324P-20AU; OC_FARNELL: 1455109; OC_NEWARK: 58M3735; PACKAGE: TQFP-44; SUPPLIER: Atmel
footprint QFP80P1200X1200X120-44N
pins: 1 PB5, 2 PB6, 3 PB7, 4 ~RESET, 5 VCC_2 (power), 6 GND_2, 7 XTAL2 (out), 8 XTAL1, 9 PD0, 10 PD1, 11 PD2, 12 PD3, 13 PD4, 14 PD5, 15 PD6, 16 PD7, 17 VCC (power), 18 GND_3, 19 PC0, 20 PC1, 21 PC2, 22 PC3, 23 PC4, 24 PC5, 25 PC6, 26 PC7, 27 AVCC (power), 28 GND_4, 29 AREF, 30 PA7, 31 PA6, 32 PA5, 33 PA4, 34 PA3, 35 PA2, 36 PA1, 37 PA0, 38 VCC_3 (power), 39 GND, 40 PB0, 41 PB1, 42 PB2, 43 PB3, 44 PB4

## ATMEGA324P-20PU
designator U?, comment 8-bit Microcontroller with In-System Programmable  Flash
MPN: ATMEGA324P-20PU; OC_FARNELL: 1455110; OC_NEWARK: 58M3736; PACKAGE: DIP-40; SUPPLIER: Atmel
footprint DIP254P1524X482-40
pins: 1 PB0, 2 PB1, 3 PB2, 4 PB3, 5 PB4, 6 PB5, 7 PB6, 8 PB7, 9 ~RESET, 10 VCC (power), 11 GND_2, 12 XTAL2 (out), 13 XTAL1, 14 PD0, 15 PD1, 16 PD2, 17 PD3, 18 PD4, 19 PD5, 20 PD6, 21 PD7, 22 PC0, 23 PC1, 24 PC2, 25 PC3, 26 PC4, 27 PC5, 28 PC6, 29 PC7, 30 AVCC (power), 31 GND, 32 AREF, 33 PA7, 34 PA6, 35 PA5, 36 PA4, 37 PA3, 38 PA2, 39 PA1, 40 PA0

## ATMEGA324PA-AU
designator U?, comment 8-bit Microcontroller
MPN: ATMEGA324PA-AU; OC_FARNELL: 1715482; OC_NEWARK: 15R0265; PACKAGE: QFP-44; SUPPLIER: Atmel
footprint QFP80P1200X1200X120-44N
pins: 1 PB5, 2 PB6, 3 PB7, 4 ~RESET, 5 VCC_3 (power), 6 GND, 7 XTAL2 (out), 8 XTAL1, 9 PD0, 10 PD1, 11 PD2, 12 PD3, 13 PD4, 14 PD5, 15 PD6, 16 PD7, 17 VCC_2 (power), 18 GND_3, 19 PC0, 20 PC1, 21 PC2, 22 PC3, 23 PC4, 24 PC5, 25 PC6, 26 PC7, 27 AVCC (power), 28 GND_4, 29 AREF, 30 PA7, 31 PA6, 32 PA5, 33 PA4, 34 PA3, 35 PA2, 36 PA1, 37 PA0, 38 VCC (power), 39 GND_2, 40 PB0, 41 PB1, 42 PB2, 43 PB3, 44 PB4

## ATMEGA324PA-MU
designator U?, comment 8-bit Microcontroller
MPN: ATMEGA324PA-MU; OC_FARNELL: 1715484; OC_NEWARK: 15R0266; PACKAGE: QFN-44; SUPPLIER: Atmel
footprint QFN50P700X700X100-45N
pins: 1 PB5, 2 PB6, 3 PB7, 4 ~RESET, 5 VCC_2 (power), 6 GND_2, 7 XTAL2 (out), 8 XTAL1, 9 PD0, 10 PD1, 11 PD2, 12 PD3, 13 PD4, 14 PD5, 15 PD6, 16 PD7, 17 VCC_3 (power), 18 GND_3, 19 PC0, 20 PC1, 21 PC2, 22 PC3, 23 PC4, 24 PC5, 25 PC6, 26 PC7, 27 AVCC (power), 28 GND, 29 AREF, 30 PA7, 31 PA6, 32 PA5, 33 PA4, 34 PA3, 35 PA2, 36 PA1, 37 PA0, 38 VCC (power), 39 GND_4, 40 PB0, 41 PB1, 42 PB2, 43 PB3, 44 PB4, 45 EP

## ATMEGA324PA-PU
designator U?, comment 8-bit MCU
MPN: ATMEGA324PA-PU; OC_FARNELL: 1715485; OC_NEWARK: 15R0267; PACKAGE: DIP-40; SUPPLIER: ATMEL
footprint DIP254P1524X482-40
pins: 1 PB0, 2 PB1, 3 PB2, 4 PB3, 5 PB4, 6 PB5, 7 PB6, 8 PB7, 9 ~RESET, 10 VCC (power), 11 GND_2, 12 XTAL2 (out), 13 XTAL1, 14 PD0, 15 PD1, 16 PD2, 17 PD3, 18 PD4, 19 PD5, 20 PD6, 21 PD7, 22 PC0, 23 PC1, 24 PC2, 25 PC3, 26 PC4, 27 PC5, 28 PC6, 29 PC7, 30 AVCC (power), 31 GND, 32 AREF, 33 PA7, 34 PA6, 35 PA5, 36 PA4, 37 PA3, 38 PA2, 39 PA1, 40 PA0

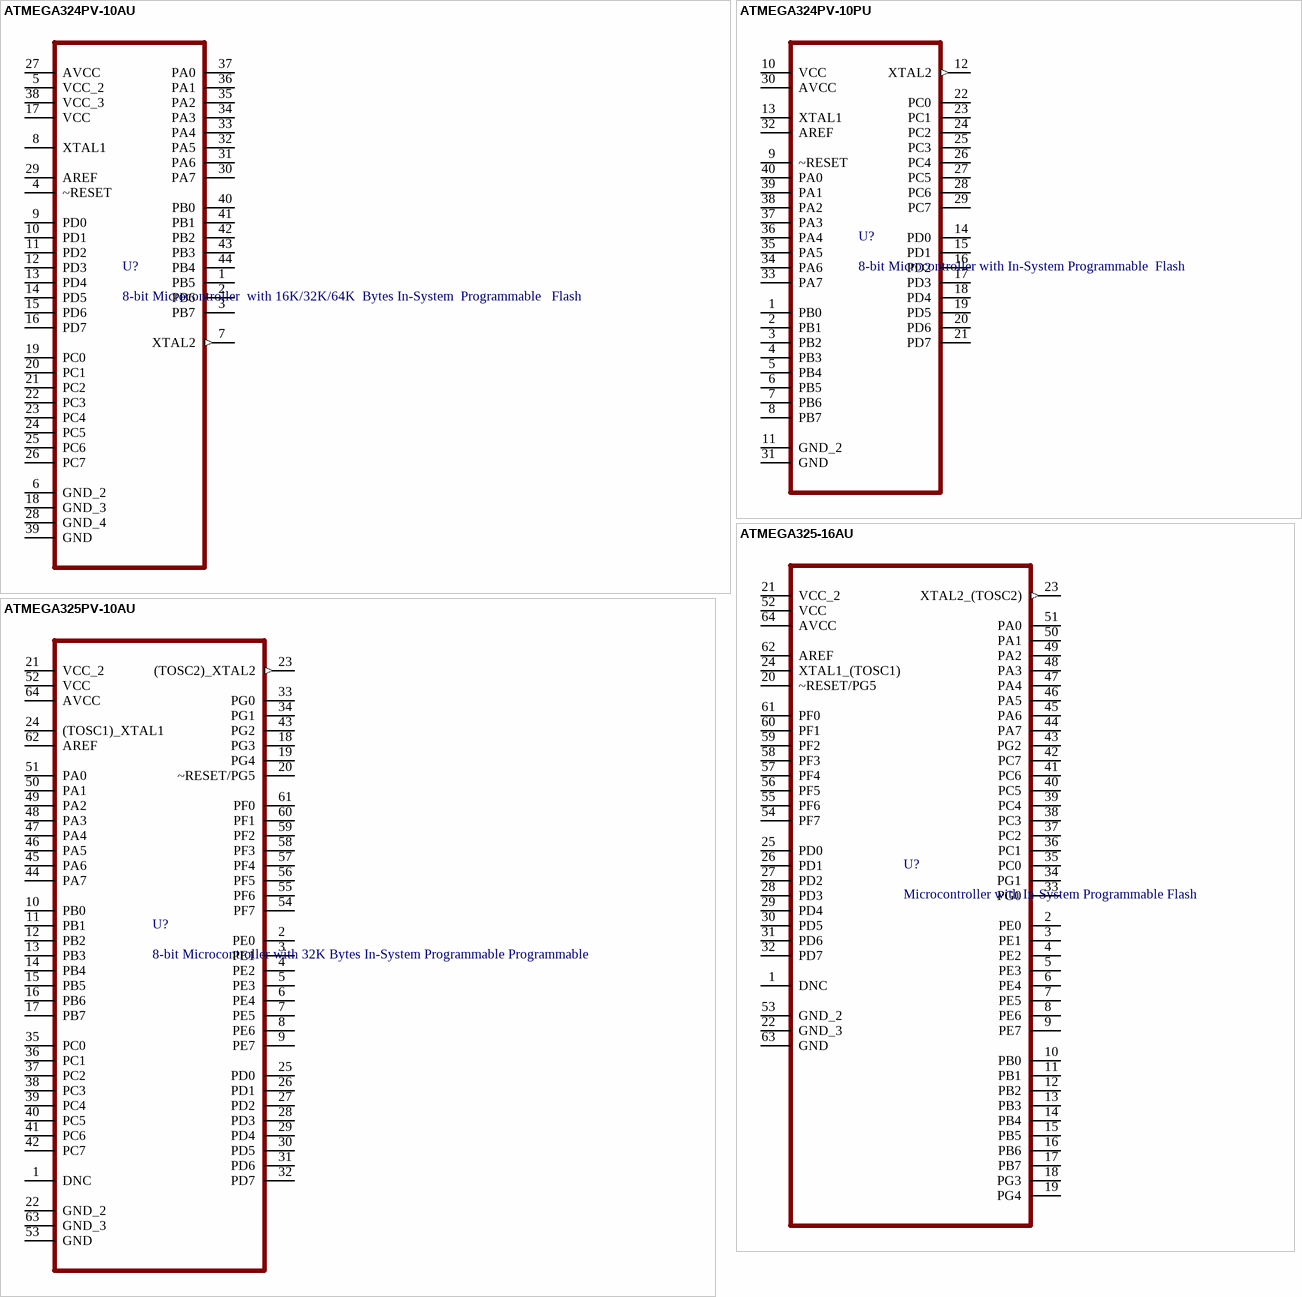
[diagram p30: symbols ATMEGA324PV-10AU to ATMEGA325PV-10AU]

## ATMEGA324PV-10AU
designator U?, comment 8-bit Microcontroller  with 16K/32K/64K  Bytes In-System  Programmable   Flash
MPN: ATMEGA324PV-10AU; OC_FARNELL: 1455111; OC_NEWARK: 58M3737; PACKAGE: TQFP-44; SUPPLIER: Atmel
footprint QFP80P1200X1200X120-44N
pins: 1 PB5, 2 PB6, 3 PB7, 4 ~RESET, 5 VCC_2 (power), 6 GND_2, 7 XTAL2 (out), 8 XTAL1, 9 PD0, 10 PD1, 11 PD2, 12 PD3, 13 PD4, 14 PD5, 15 PD6, 16 PD7, 17 VCC (power), 18 GND_3, 19 PC0, 20 PC1, 21 PC2, 22 PC3, 23 PC4, 24 PC5, 25 PC6, 26 PC7, 27 AVCC (power), 28 GND_4, 29 AREF, 30 PA7, 31 PA6, 32 PA5, 33 PA4, 34 PA3, 35 PA2, 36 PA1, 37 PA0, 38 VCC_3 (power), 39 GND, 40 PB0, 41 PB1, 42 PB2, 43 PB3, 44 PB4

## ATMEGA324PV-10PU
designator U?, comment 8-bit Microcontroller with In-System Programmable  Flash
MPN: ATMEGA324PV-10PU; OC_FARNELL: -; OC_NEWARK: 58M3738; PACKAGE: PDIP-40; SUPPLIER: Atmel
footprint DIP254P1524X483-40
pins: 1 PB0, 2 PB1, 3 PB2, 4 PB3, 5 PB4, 6 PB5, 7 PB6, 8 PB7, 9 ~RESET, 10 VCC (power), 11 GND_2, 12 XTAL2 (out), 13 XTAL1, 14 PD0, 15 PD1, 16 PD2, 17 PD3, 18 PD4, 19 PD5, 20 PD6, 21 PD7, 22 PC0, 23 PC1, 24 PC2, 25 PC3, 26 PC4, 27 PC5, 28 PC6, 29 PC7, 30 AVCC (power), 31 GND, 32 AREF, 33 PA7, 34 PA6, 35 PA5, 36 PA4, 37 PA3, 38 PA2, 39 PA1, 40 PA0

## ATMEGA325-16AU
designator U?, comment Microcontroller with In-System Programmable Flash
MPN: ATMEGA325-16AU; OC_FARNELL: 1288336; OC_NEWARK: 23M5055; PACKAGE: TQFP-64; SUPPLIER: Atmel
footprint QFP80P1600X1600X120-64N
pins: 1 DNC, 2 PE0, 3 PE1, 4 PE2, 5 PE3, 6 PE4, 7 PE5, 8 PE6, 9 PE7, 10 PB0, 11 PB1, 12 PB2, 13 PB3, 14 PB4, 15 PB5, 16 PB6, 17 PB7, 18 PG3, 19 PG4, 20 ~RESET/PG5, 21 VCC_2 (power), 22 GND_3, 23 XTAL2_(TOSC2) (out), 24 XTAL1_(TOSC1), 25 PD0, 26 PD1, 27 PD2, 28 PD3, 29 PD4, 30 PD5, 31 PD6, 32 PD7, 33 PG0, 34 PG1, 35 PC0, 36 PC1, 37 PC2, 38 PC3, 39 PC4, 40 PC5, 41 PC6, 42 PC7, 43 PG2, 44 PA7, 45 PA6, 46 PA5, 47 PA4, 48 PA3, 49 PA2, 50 PA1, 51 PA0, 52 VCC (power), 53 GND_2, 54 PF7, 55 PF6, 56 PF5, 57 PF4, 58 PF3, 59 PF2, 60 PF1, 61 PF0, 62 AREF, 63 GND, 64 AVCC (power)

## ATMEGA325PV-10AU
designator U?, comment 8-bit Microcontroller with 32K Bytes In-System Programmable Programmable
MPN: ATMEGA325PV-10AU; OC_FARNELL: 1636940; OC_NEWARK: 03P2025; PACKAGE: TQFP-64; SUPPLIER: Atmel
footprint QFP80P1600X1600X120-64N
pins: 1 DNC, 2 PE0, 3 PE1, 4 PE2, 5 PE3, 6 PE4, 7 PE5, 8 PE6, 9 PE7, 10 PB0, 11 PB1, 12 PB2, 13 PB3, 14 PB4, 15 PB5, 16 PB6, 17 PB7, 18 PG3, 19 PG4, 20 ~RESET/PG5, 21 VCC_2 (power), 22 GND_2, 23 (TOSC2)_XTAL2 (out), 24 (TOSC1)_XTAL1, 25 PD0, 26 PD1, 27 PD2, 28 PD3, 29 PD4, 30 PD5, 31 PD6, 32 PD7, 33 PG0, 34 PG1, 35 PC0, 36 PC1, 37 PC2, 38 PC3, 39 PC4, 40 PC5, 41 PC6, 42 PC7, 43 PG2, 44 PA7, 45 PA6, 46 PA5, 47 PA4, 48 PA3, 49 PA2, 50 PA1, 51 PA0, 52 VCC (power), 53 GND, 54 PF7, 55 PF6, 56 PF5, 57 PF4, 58 PF3, 59 PF2, 60 PF1, 61 PF0, 62 AREF, 63 GND_3, 64 AVCC (power)

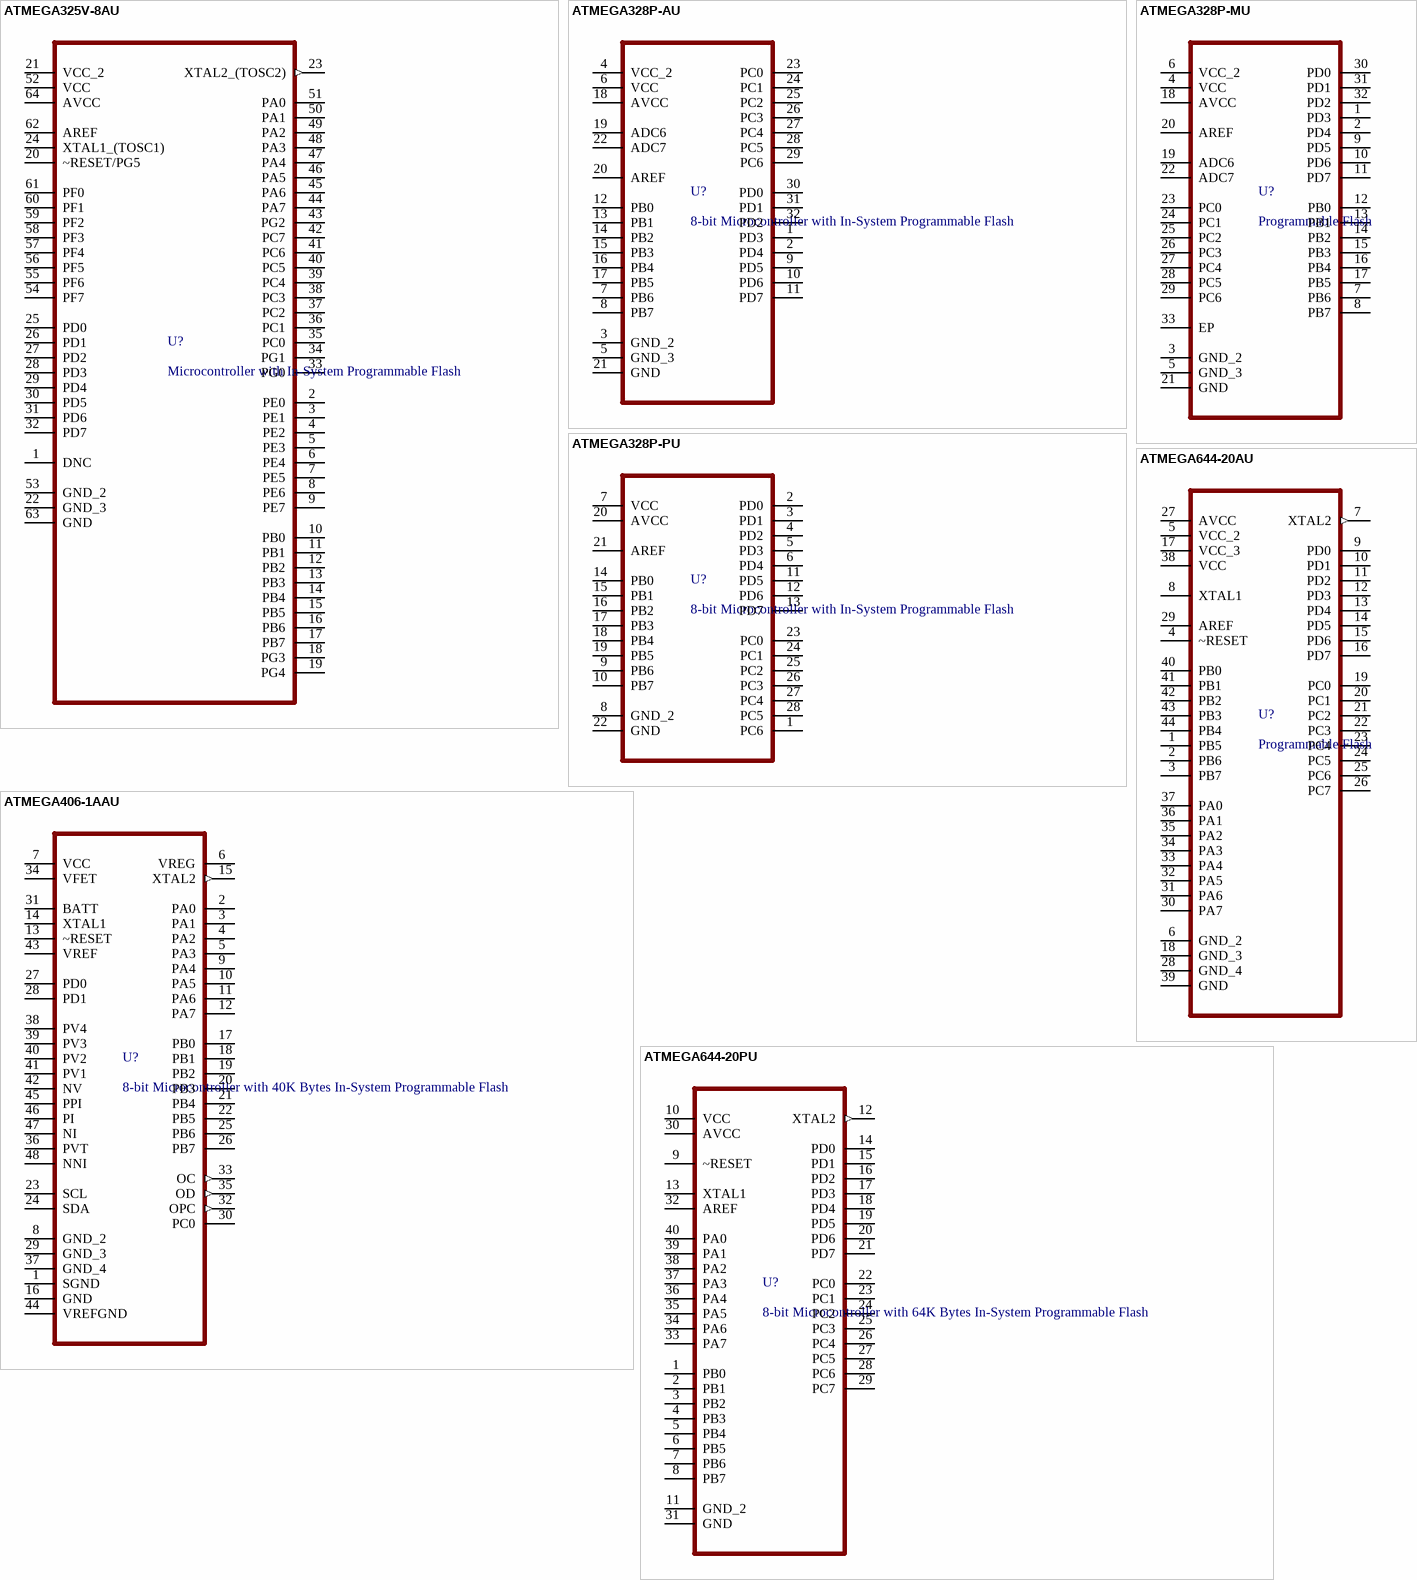
[diagram p31: symbols ATMEGA325V-8AU to ATMEGA644-20PU]

## ATMEGA325V-8AU
designator U?, comment Microcontroller with In-System Programmable Flash
MPN: ATMEGA325V-8AU; OC_FARNELL: 1288338; OC_NEWARK: 23M5056; PACKAGE: TQFP-64; SUPPLIER: Atmel
footprint QFP80P1600X1600X120-64N
pins: 1 DNC, 2 PE0, 3 PE1, 4 PE2, 5 PE3, 6 PE4, 7 PE5, 8 PE6, 9 PE7, 10 PB0, 11 PB1, 12 PB2, 13 PB3, 14 PB4, 15 PB5, 16 PB6, 17 PB7, 18 PG3, 19 PG4, 20 ~RESET/PG5, 21 VCC_2 (power), 22 GND_3, 23 XTAL2_(TOSC2) (out), 24 XTAL1_(TOSC1), 25 PD0, 26 PD1, 27 PD2, 28 PD3, 29 PD4, 30 PD5, 31 PD6, 32 PD7, 33 PG0, 34 PG1, 35 PC0, 36 PC1, 37 PC2, 38 PC3, 39 PC4, 40 PC5, 41 PC6, 42 PC7, 43 PG2, 44 PA7, 45 PA6, 46 PA5, 47 PA4, 48 PA3, 49 PA2, 50 PA1, 51 PA0, 52 VCC (power), 53 GND_2, 54 PF7, 55 PF6, 56 PF5, 57 PF4, 58 PF3, 59 PF2, 60 PF1, 61 PF0, 62 AREF, 63 GND, 64 AVCC (power)

## ATMEGA328P-AU
designator U?, comment 8-bit Microcontroller with In-System Programmable Flash
MPN: ATMEGA328P-AU; OC_FARNELL: 1715486; OC_NEWARK: 14R4631; PACKAGE: TQFP-32; SUPPLIER: Atmel
footprint QFP80P900X900X120-32N
pins: 1 PD3, 2 PD4, 3 GND_2, 4 VCC_2 (power), 5 GND_3, 6 VCC (power), 7 PB6, 8 PB7, 9 PD5, 10 PD6, 11 PD7, 12 PB0, 13 PB1, 14 PB2, 15 PB3, 16 PB4, 17 PB5, 18 AVCC (power), 19 ADC6, 20 AREF, 21 GND, 22 ADC7, 23 PC0, 24 PC1, 25 PC2, 26 PC3, 27 PC4, 28 PC5, 29 PC6, 30 PD0, 31 PD1, 32 PD2

## ATMEGA328P-MU
designator U?, comment Programmable Flash
MPN: ATMEGA328P-MU; OC_FARNELL: 1748522; OC_NEWARK: 26R2526; PACKAGE: QFN-32; SUPPLIER: Atmel
footprint QFN50P500X500X100-33N
pins: 1 PD3, 2 PD4, 3 GND_2, 4 VCC (power), 5 GND_3, 6 VCC_2 (power), 7 PB6, 8 PB7, 9 PD5, 10 PD6, 11 PD7, 12 PB0, 13 PB1, 14 PB2, 15 PB3, 16 PB4, 17 PB5, 18 AVCC (power), 19 ADC6, 20 AREF, 21 GND, 22 ADC7, 23 PC0, 24 PC1, 25 PC2, 26 PC3, 27 PC4, 28 PC5, 29 PC6, 30 PD0, 31 PD1, 32 PD2, 33 EP

## ATMEGA328P-PU
designator U?, comment 8-bit Microcontroller with In-System Programmable Flash
MPN: ATMEGA328P-PU; OC_FARNELL: 1715487; OC_NEWARK: 15R0268; PACKAGE: PDIP-28; SUPPLIER: Atmel
footprint DIP254P762X457-28
pins: 1 PC6, 2 PD0, 3 PD1, 4 PD2, 5 PD3, 6 PD4, 7 VCC (power), 8 GND_2, 9 PB6, 10 PB7, 11 PD5, 12 PD6, 13 PD7, 14 PB0, 15 PB1, 16 PB2, 17 PB3, 18 PB4, 19 PB5, 20 AVCC (power), 21 AREF, 22 GND, 23 PC0, 24 PC1, 25 PC2, 26 PC3, 27 PC4, 28 PC5

## ATMEGA406-1AAU
designator U?, comment 8-bit Microcontroller with 40K Bytes In-System Programmable Flash
MPN: ATMEGA406-1AAU; OC_FARNELL: 1455115; OC_NEWARK: 58M3739; PACKAGE: LQFP-48; SUPPLIER: Atmel
footprint QFP50P900X900X160-48N
pins: 1 SGND, 2 PA0, 3 PA1, 4 PA2, 5 PA3, 6 VREG, 7 VCC (power), 8 GND_2, 9 PA4, 10 PA5, 11 PA6, 12 PA7, 13 ~RESET, 14 XTAL1, 15 XTAL2 (out), 16 GND, 17 PB0, 18 PB1, 19 PB2, 20 PB3, 21 PB4, 22 PB5, 23 SCL, 24 SDA, 25 PB6, 26 PB7, 27 PD0, 28 PD1, 29 GND_3, 30 PC0, 31 BATT, 32 OPC (out), 33 OC (out), 34 VFET (power), 35 OD (out), 36 PVT, 37 GND_4, 38 PV4, 39 PV3, 40 PV2, 41 PV1, 42 NV, 43 VREF (power), 44 VREFGND, 45 PPI, 46 PI, 47 NI, 48 NNI

## ATMEGA644-20AU
designator U?, comment Programmable Flash
MPN: ATMEGA644-20AU; OC_FARNELL: 1288339; OC_NEWARK: 23M5059; PACKAGE: TQFP-44; SUPPLIER: Atmel
footprint QFP80P1200X1200X120-44N
pins: 1 PB5, 2 PB6, 3 PB7, 4 ~RESET, 5 VCC_2 (power), 6 GND_2, 7 XTAL2 (out), 8 XTAL1, 9 PD0, 10 PD1, 11 PD2, 12 PD3, 13 PD4, 14 PD5, 15 PD6, 16 PD7, 17 VCC_3 (power), 18 GND_3, 19 PC0, 20 PC1, 21 PC2, 22 PC3, 23 PC4, 24 PC5, 25 PC6, 26 PC7, 27 AVCC (power), 28 GND_4, 29 AREF, 30 PA7, 31 PA6, 32 PA5, 33 PA4, 34 PA3, 35 PA2, 36 PA1, 37 PA0, 38 VCC (power), 39 GND, 40 PB0, 41 PB1, 42 PB2, 43 PB3, 44 PB4

## ATMEGA644-20PU
designator U?, comment 8-bit Microcontroller with 64K Bytes In-System Programmable Flash
MPN: ATMEGA644-20PU; OC_FARNELL: 1288340; OC_NEWARK: 23M5060; PACKAGE: DIP-40; SUPPLIER: Atmel
footprint DIP254P1524X482-40
pins: 1 PB0, 2 PB1, 3 PB2, 4 PB3, 5 PB4, 6 PB5, 7 PB6, 8 PB7, 9 ~RESET, 10 VCC (power), 11 GND_2, 12 XTAL2 (out), 13 XTAL1, 14 PD0, 15 PD1, 16 PD2, 17 PD3, 18 PD4, 19 PD5, 20 PD6, 21 PD7, 22 PC0, 23 PC1, 24 PC2, 25 PC3, 26 PC4, 27 PC5, 28 PC6, 29 PC7, 30 AVCC (power), 31 GND, 32 AREF, 33 PA7, 34 PA6, 35 PA5, 36 PA4, 37 PA3, 38 PA2, 39 PA1, 40 PA0

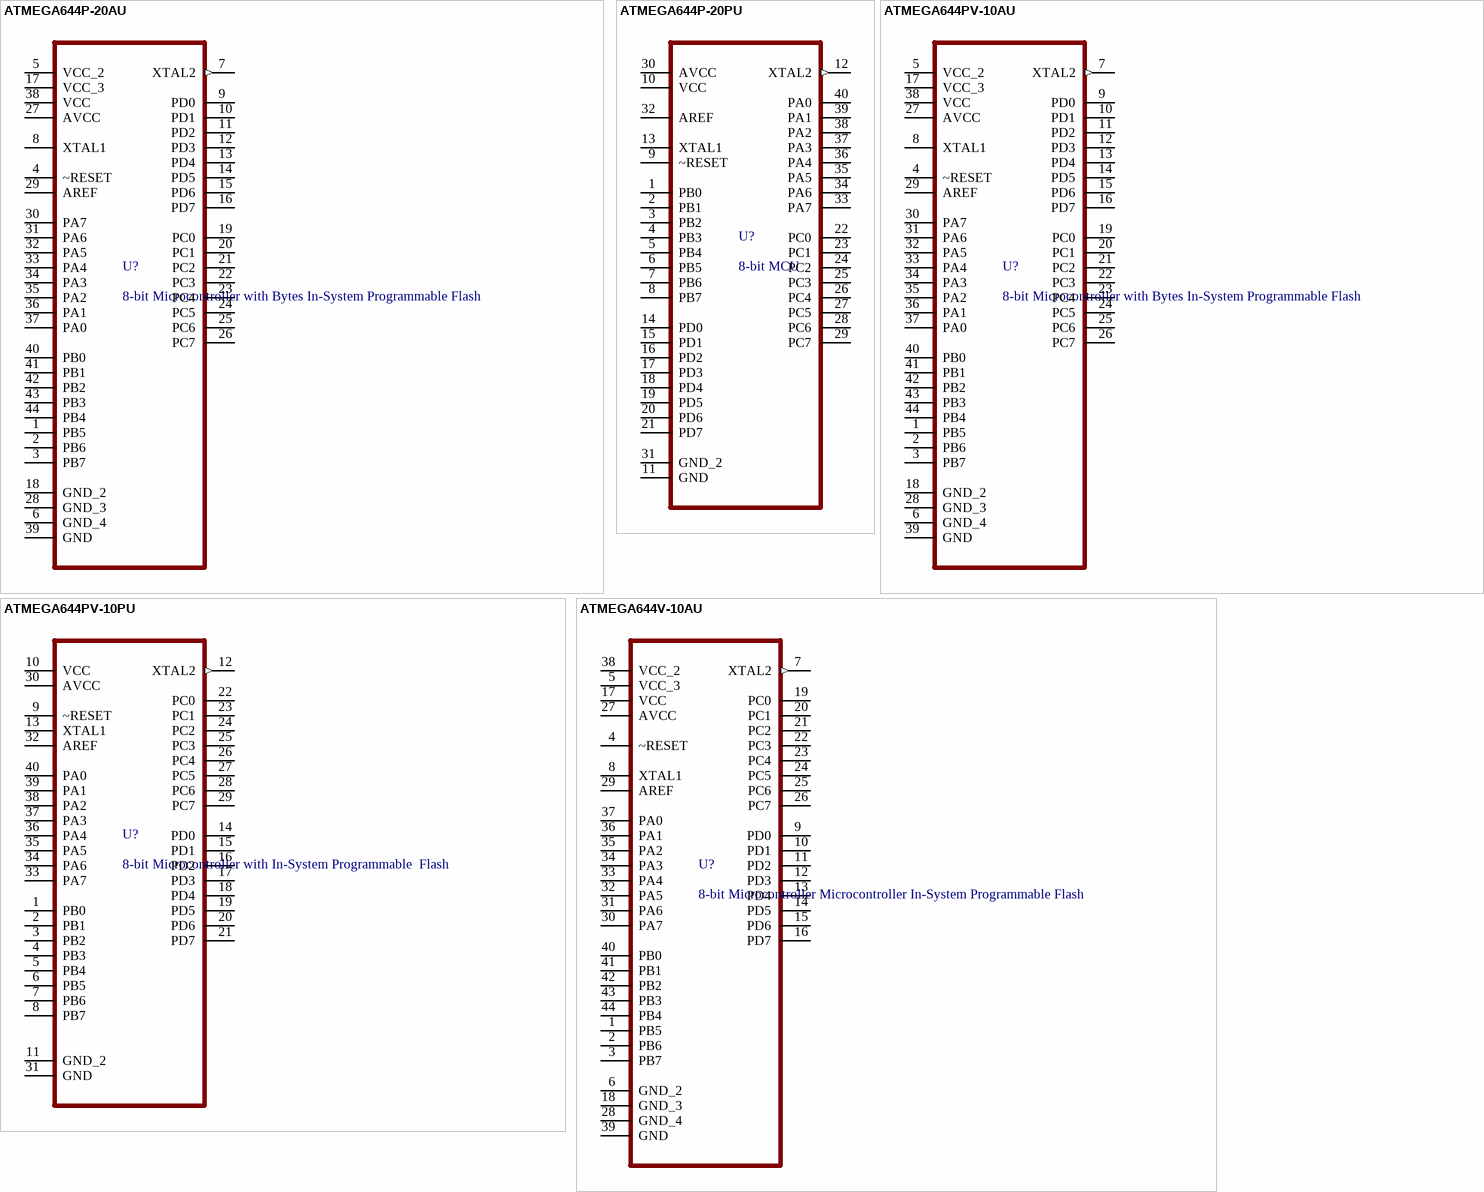
[diagram p32: symbols ATMEGA644P-20AU to ATMEGA644V-10AU]

## ATMEGA644P-20AU
designator U?, comment 8-bit Microcontroller with Bytes In-System Programmable Flash
MPN: ATMEGA644P-20AU; OC_FARNELL: 1455121; OC_NEWARK: 58M3746; PACKAGE: TQFP-44; SUPPLIER: Atmel
footprint QFP80P1200X1200X120-44N
pins: 1 PB5, 2 PB6, 3 PB7, 4 ~RESET, 5 VCC_2 (power), 6 GND_4, 7 XTAL2 (out), 8 XTAL1, 9 PD0, 10 PD1, 11 PD2, 12 PD3, 13 PD4, 14 PD5, 15 PD6, 16 PD7, 17 VCC_3 (power), 18 GND_2, 19 PC0, 20 PC1, 21 PC2, 22 PC3, 23 PC4, 24 PC5, 25 PC6, 26 PC7, 27 AVCC (power), 28 GND_3, 29 AREF, 30 PA7, 31 PA6, 32 PA5, 33 PA4, 34 PA3, 35 PA2, 36 PA1, 37 PA0, 38 VCC (power), 39 GND, 40 PB0, 41 PB1, 42 PB2, 43 PB3, 44 PB4

## ATMEGA644P-20PU
designator U?, comment 8-bit MCU
MPN: ATMEGA644P-20PU; OC_FARNELL: 1455122; OC_NEWARK: 58M3747; PACKAGE: DIP-40; SUPPLIER: Atmel
footprint DIP254P1524X482-40
pins: 1 PB0, 2 PB1, 3 PB2, 4 PB3, 5 PB4, 6 PB5, 7 PB6, 8 PB7, 9 ~RESET, 10 VCC (power), 11 GND, 12 XTAL2 (out), 13 XTAL1, 14 PD0, 15 PD1, 16 PD2, 17 PD3, 18 PD4, 19 PD5, 20 PD6, 21 PD7, 22 PC0, 23 PC1, 24 PC2, 25 PC3, 26 PC4, 27 PC5, 28 PC6, 29 PC7, 30 AVCC (power), 31 GND_2, 32 AREF, 33 PA7, 34 PA6, 35 PA5, 36 PA4, 37 PA3, 38 PA2, 39 PA1, 40 PA0

## ATMEGA644PV-10AU
designator U?, comment 8-bit Microcontroller with Bytes In-System Programmable Flash
MPN: ATMEGA644PV-10AU; OC_FARNELL: 1455123; OC_NEWARK: 58M3748; PACKAGE: TQFP-44; SUPPLIER: Atmel
footprint QFP80P1200X1200X120-44N
pins: 1 PB5, 2 PB6, 3 PB7, 4 ~RESET, 5 VCC_2 (power), 6 GND_4, 7 XTAL2 (out), 8 XTAL1, 9 PD0, 10 PD1, 11 PD2, 12 PD3, 13 PD4, 14 PD5, 15 PD6, 16 PD7, 17 VCC_3 (power), 18 GND_2, 19 PC0, 20 PC1, 21 PC2, 22 PC3, 23 PC4, 24 PC5, 25 PC6, 26 PC7, 27 AVCC (power), 28 GND_3, 29 AREF, 30 PA7, 31 PA6, 32 PA5, 33 PA4, 34 PA3, 35 PA2, 36 PA1, 37 PA0, 38 VCC (power), 39 GND, 40 PB0, 41 PB1, 42 PB2, 43 PB3, 44 PB4